# Altium schematic symbol library IC_chips.SchLib: 104 symbols (part 1 of 2)
Pins are listed as number, name and electrical type; pins without a type are passive.

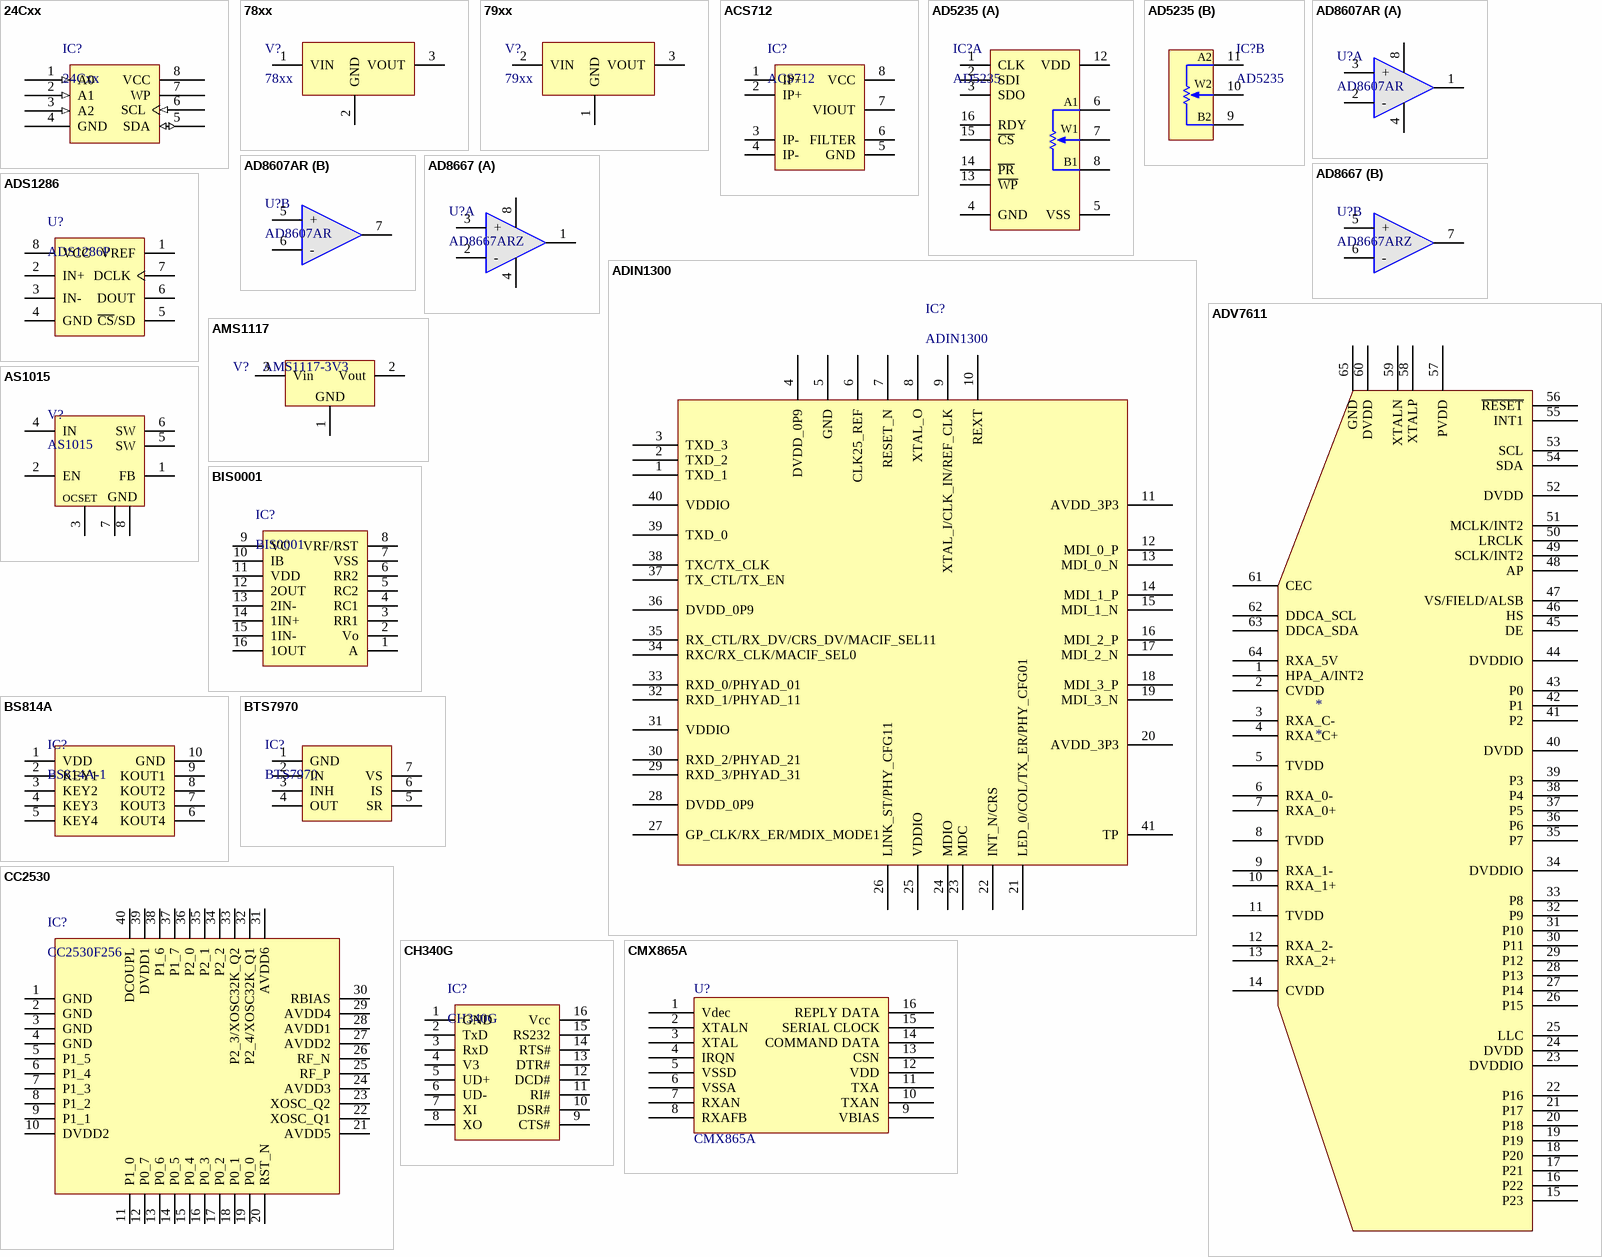
[diagram p0: symbols 24Cxx to CMX865A]

## 24Cxx
designator IC?
外置EEPROM; 版权归属: 源创客; BOM名称: 外置EEPROM; 学习资源: https://lmdzstyle.taobao.com/
footprint SOP8_L (5*6*1.8mm（长宽高）)
footprint SOP8_N (5*6*1.8mm（长宽高）)
footprint SOP8_M (5*6*1.8mm（长宽高）)
pins: 1 A0 (in), 2 A1 (in), 3 A2 (in), 4 GND, 5 SDA (io), 6 SCL (in), 7 WP, 8 VCC (power)

## 78xx
designator V?
线性稳压芯片; 版权归属: 源创客; BOM名称: 线性稳压芯片; 学习资源: https://lmdzstyle.taobao.com/
footprint TO252 (252晶体管)
footprint TO220A (220，3脚晶体管)
footprint TO220B (220，3脚晶体管)
pins: 1 VIN, 2 GND, 3 VOUT

## 79xx
designator V?
线性稳压芯片; 版权归属: 源创客; BOM名称: 线性稳压芯片; 学习资源: https://lmdzstyle.taobao.com/
footprint TO252 (252晶体管)
footprint TO220A (220，3脚晶体管)
footprint TO220B (220，3脚晶体管)
pins: 1 GND, 2 VIN, 3 VOUT

## ACS712
designator IC?
电流检测芯片; 版权归属: 源创客; BOM名称: 电流检测芯片; 学习资源: https://lmdzstyle.taobao.com/
footprint SOP8_N (5*6*1.8mm（长宽高）)
footprint SOP8_L (5*6*1.8mm（长宽高）)
footprint SOP8_M (5*6*1.8mm（长宽高）)
pins: 1 IP+, 2 IP+, 3 IP-, 4 IP-, 5 GND, 6 FILTER, 7 VIOUT, 8 VCC

## AD5235
designator IC?
数字电位器; 版权归属: 源创客; BOM名称: 数字电位器; 学习资源: https://lmdzstyle.taobao.com/
footprint TSSOP16_N (5*6.4*1mm（长宽高）)
footprint TSSOP16_L (5*6.4*1mm（长宽高）)
footprint TSSOP16_M (5*6.4*1mm（长宽高）)
part A pins: 1 CLK, 2 SDI, 3 SDO, 4 GND, 5 VSS, 6 A1, 7 W1, 8 B1, 12 VDD, 13 ~{WP}, 14 ~{PR}, 15 ~{CS}, 16 RDY
part B pins: 9 B2, 10 W2, 11 A2

## AD8607AR
designator U?
双运放; 版权归属: 源创客; BOM名称: 双运放; 学习资源: https://lmdzstyle.taobao.com/
footprint SOP8_N (5*6*1.8mm（长宽高）)
footprint SOP8_L (5*6*1.8mm（长宽高）)
footprint SOP8_M (5*6*1.8mm（长宽高）)
part A pins: 1 OUT1, 2 -, 3 +, 4 V- (power), 8 V+ (power)
part B pins: 5 +, 6 -, 7 OUT2

## AD8667
designator U?, comment AD8667ARZ
双运放; 版权归属: 源创客; BOM名称: 双运放; 学习资源: https://lmdzstyle.taobao.com/
footprint SOP8_N (5*6*1.8mm（长宽高）)
footprint SOP8_L (5*6*1.8mm（长宽高）)
footprint SOP8_M (5*6*1.8mm（长宽高）)
part A pins: 1 OUT1, 2 -, 3 +, 4 V- (power), 8 V+ (power)
part B pins: 5 +, 6 -, 7 OUT2

## ADIN1300
designator IC?
10/100/1000M 工业级PHY
footprint LFCSP40 6x6 (40脚，体宽：6x6mm，脚距：0.5mm)
pins: 1 TXD_1, 2 TXD_2, 3 TXD_3, 4 DVDD_0P9, 5 GND, 6 CLK25_REF, 7 RESET_N, 8 XTAL_O, 9 XTAL_I/CLK_IN/REF_CLK, 10 REXT, 11 AVDD_3P3, 12 MDI_0_P, 13 MDI_0_N, 14 MDI_1_P, 15 MDI_1_N, 16 MDI_2_P, 17 MDI_2_N, 18 MDI_3_P, 19 MDI_3_N, 20 AVDD_3P3, 21 LED_0/COL/TX_ER/PHY_CFG01, 22 INT_N/CRS, 23 MDC, 24 MDIO, 25 VDDIO, 26 LINK_ST/PHY_CFG11, 27 GP_CLK/RX_ER/MDIX_MODE1, 28 DVDD_0P9, 29 RXD_3/PHYAD_31, 30 RXD_2/PHYAD_21, 31 VDDIO, 32 RXD_1/PHYAD_11, 33 RXD_0/PHYAD_01, 34 RXC/RX_CLK/MACIF_SEL0, 35 RX_CTL/RX_DV/CRS_DV/MACIF_SEL11, 36 DVDD_0P9, 37 TX_CTL/TX_EN, 38 TXC/TX_CLK, 39 TXD_0, 40 VDDIO, 41 TP

## ADS1286
designator U?, comment ADS1286P
12位数模转换芯片; 版权归属: 黎明电子style; BOM名称: 12位数模转换芯片; 学习资源: https://lmdzstyle.taobao.com/
footprint SOP8_L (5*6*1.8mm（长宽高）)
footprint SOP8_M (5*6*1.8mm（长宽高）)
footprint SOP8_N (5*6*1.8mm（长宽高）)
footprint DIP8-300 (9.4*7.6*3.8(长宽高）)
footprint DIP8-300_MH (带底座 9.4*7.6*3.8(长宽高）)
pins: 1 VREF, 2 IN+, 3 IN-, 4 GND, 5 ~{CS}/SD, 6 DOUT, 7 DCLK, 8 VCC

## ADV7611
designator *
footprint HLQFP64 10x10_N (64脚，体宽10x10mm，脚距0.5mm)
pins: 1 HPA_A/INT2, 2 CVDD, 3 RXA_C-, 4 RXA_C+, 5 TVDD, 6 RXA_0-, 7 RXA_0+, 8 TVDD, 9 RXA_1-, 10 RXA_1+, 11 TVDD, 12 RXA_2-, 13 RXA_2+, 14 CVDD, 15 P23, 16 P22, 17 P21, 18 P20, 19 P19, 20 P18, 21 P17, 22 P16, 23 DVDDIO, 24 DVDD, 25 LLC, 26 P15, 27 P14, 28 P13, 29 P12, 30 P11, 31 P10, 32 P9, 33 P8, 34 DVDDIO, 35 P7, 36 P6, 37 P5, 38 P4, 39 P3, 40 DVDD, 41 P2, 42 P1, 43 P0, 44 DVDDIO, 45 DE, 46 HS, 47 VS/FIELD/ALSB, 48 AP, 49 SCLK/INT2, 50 LRCLK, 51 MCLK/INT2, 52 DVDD, 53 SCL, 54 SDA, 55 INT1, 56 ~{RESET}, 57 PVDD, 58 XTALP, 59 XTALN, 60 DVDD, 61 CEC, 62 DDCA_SCL, 63 DDCA_SDA, 64 RXA_5V, 65 GND

## AMS1117
designator V?, comment AMS1117-3V3
三端稳压芯片; BOM名称: 稳压芯片; 版权归属: 黎明电子style; 学习资源: https://lmdzstyle.taobao.com/
footprint SOT223_L (6.4x7x1.6mm(长宽高))
footprint SOT223_M (6.4x7x1.6mm(长宽高))
footprint SOT223_N (6.4x7x1.6mm(长宽高))
footprint SOT89_L (4.6x4.3x1.6mm(长宽高))
footprint SOT89_N (4.6x4.3x1.6mm(长宽高))
footprint SOT89_M (4.6x4.3x1.6mm(长宽高))
pins: 1 GND, 2 Vout, 3 Vin

## AS1015
designator V?
可调升压芯片; 版权归属: 黎明电子style; BOM名称: 可调升压芯片; 学习资源: https://lmdzstyle.taobao.com/
footprint SOP8_N (5*6*1.8mm（长宽高）)
footprint SOP8_L (5*6*1.8mm（长宽高）)
footprint SOP8_M (5*6*1.8mm（长宽高）)
pins: 1 FB (power), 2 EN (power), 3 OCSET (power), 4 IN (power), 5 SW (power), 6 SW (power), 7 GND (power), 8 GND (power)

## BIS0001
designator IC?
人体红外专用芯片; 版权归属: 黎明电子style; BOM名称: BIS0001; 学习资源: https://lmdzstyle.taobao.com/
footprint SOP16_N (10.3*6.2*1.8mm（长宽高）)
footprint SOP16_L (10.3*6.2*1.8mm（长宽高）)
footprint SOP16_M (10.3*6.2*1.8mm（长宽高）)
pins: 1 A, 2 Vo, 3 RR1, 4 RC1, 5 RC2, 6 RR2, 7 VSS, 8 VRF/RST, 9 VC, 10 IB, 11 VDD, 12 2OUT, 13 2IN-, 14 1IN+, 15 1IN-, 16 1OUT

## BS814A
designator IC?, comment BS814A-1
4键电容触摸按键芯片; 版权归属: 黎明电子style; BOM名称: 4键电容触摸按键芯片; 学习资源: https://lmdzstyle.taobao.com/
footprint MSOP10_L (塑封体长3mm，宽3mm，脚距0.5)
footprint MSOP10_N (塑封体长3mm，宽3mm，脚距0.5)
footprint MSOP10_M (塑封体长3mm，宽3mm，脚距0.5)
pins: 1 VDD, 2 KEY1, 3 KEY2, 4 KEY3, 5 KEY4, 6 KOUT4, 7 KOUT3, 8 KOUT2, 9 KOUT1, 10 GND

## BTS7970
designator IC?
电机驱动芯片; 版权归属: 黎明电子style; BOM名称: 电机驱动芯片; 学习资源: https://lmdzstyle.taobao.com/
footprint TO263-7A (263，7脚晶体管)
footprint TO263-7B (263，7脚晶体管)
pins: 1 GND (power), 2 IN (power), 3 INH (power), 4 OUT (power), 5 SR (power), 6 IS (power), 7 VS (power)

## CC2530
designator IC?, comment CC2530F256
ZigBee2.4G无线组网芯片; 版权归属: 黎明电子style; BOM名称: ZigBee2.4G无线组网芯片; 学习资源: https://lmdzstyle.taobao.com/
footprint QFN40 6X6_L (40脚，体宽：6x6mm，脚距：0.5mm)
footprint QFN40 6X6_M (40脚，体宽：6x6mm，脚距：0.5mm)
footprint QFN40 6X6_N (40脚，体宽：6x6mm，脚距：0.5mm)
pins: 1 GND, 2 GND, 3 GND, 4 GND, 5 P1_5, 6 P1_4, 7 P1_3, 8 P1_2, 9 P1_1, 10 DVDD2, 11 P1_0, 12 P0_7, 13 P0_6, 14 P0_5, 15 P0_4, 16 P0_3, 17 P0_2, 18 P0_1, 19 P0_0, 20 RST_N, 21 AVDD5, 22 XOSC_Q1, 23 XOSC_Q2, 24 AVDD3, 25 RF_P, 26 RF_N, 27 AVDD2, 28 AVDD1, 29 AVDD4, 30 RBIAS, 31 AVDD6, 32 P2_4/XOSC32K_Q1, 33 P2_3/XOSC32K_Q2, 34 P2_2, 35 P2_1, 36 P2_0, 37 P1_7, 38 P1_6, 39 DVDD1, 40 DCOUPL

## CH340G
designator IC?
串口转USB; 版权归属: 黎明电子style; BOM名称: 串口转USB; 学习资源: https://lmdzstyle.taobao.com/
footprint SOP16_L (10.3*6.2*1.8mm（长宽高）)
footprint SOP16_N (10.3*6.2*1.8mm（长宽高）)
footprint SOP16_M (10.3*6.2*1.8mm（长宽高）)
footprint DIP16-300 (19.3*7.6*3.8(长宽高）)
pins: 1 GND, 2 TxD, 3 RxD, 4 V3, 5 UD+, 6 UD-, 7 XI, 8 XO, 9 CTS#, 10 DSR#, 11 RI#, 12 DCD#, 13 DTR#, 14 RTS#, 15 RS232, 16 Vcc

## CMX865A
designator U?
有线电话modem
footprint TSSOP16_N (5*6.4*1mm（长宽高）)
pins: 1 Vdec, 2 XTALN, 3 XTAL, 4 IRQN, 5 VSSD, 6 VSSA, 7 RXAN, 8 RXAFB, 9 VBIAS, 10 TXAN, 11 TXA, 12 VDD, 13 CSN, 14 COMMAND DATA, 15 SERIAL CLOCK, 16 REPLY DATA

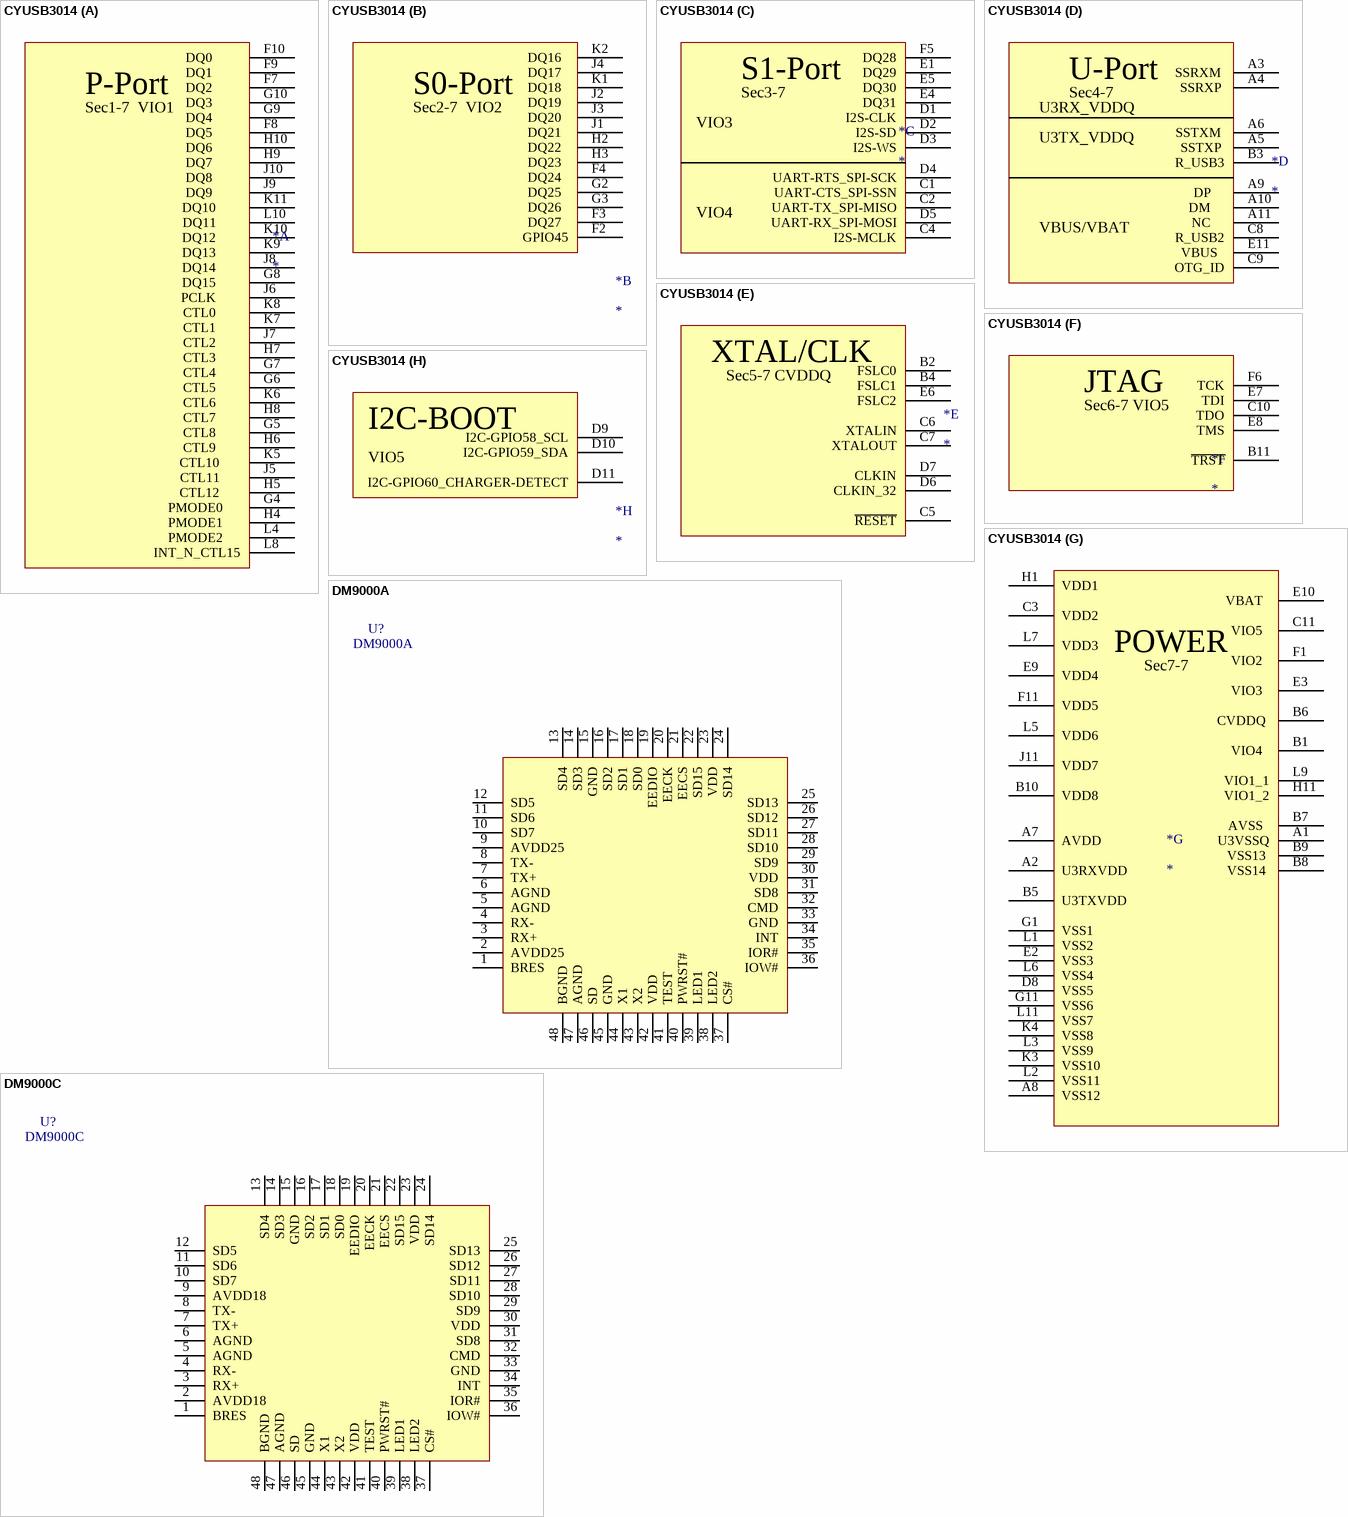
[diagram p1: symbols CYUSB3014 to DM9000C]

## CYUSB3014
designator *
USB3.0芯片
footprint BGA121C80P11X11_1000X1000X120 (BGA, 121-Leads, Body 10.00x10.00mmx1.20mm, Pitch 0.80mm)
part A pins: F7 DQ2        , F8 DQ5        , F9 DQ1        , F10 DQ0        , G4 PMODE0     , G5 CTL8       , G6 CTL5       , G7 CTL4       , G8 DQ15       , G9 DQ4        , G10 DQ3        , H4 PMODE1     , H5 CTL12      , H6 CTL9       , H7 CTL3       , H8 CTL7       , H9 DQ7        , H10 DQ6        , J5 CTL11      , J6 PCLK       , J7 CTL2       , J8 DQ14       , J9 DQ9        , J10 DQ8        , K5 CTL10      , K6 CTL6       , K7 CTL1       , K8 CTL0       , K9 DQ13       , K10 DQ12       , K11 DQ10       , L4 PMODE2     , L8 INT_N_CTL15, L10 DQ11       
part B pins: F2 GPIO45, F3 DQ27  , F4 DQ24  , G2 DQ25  , G3 DQ26  , H2 DQ22  , H3 DQ23  , J1 DQ21  , J2 DQ19  , J3 DQ20  , J4 DQ17  , K1 DQ18  , K2 DQ16  
part C pins: C1 UART-CTS_SPI-SSN, C2 UART-TX_SPI-MISO, C4 I2S-MCLK, D1 I2S-CLK, D2 I2S-SD, D3 I2S-WS, D4 UART-RTS_SPI-SCK, D5 UART-RX_SPI-MOSI, E1 DQ29, E4 DQ31, E5 DQ30, F5 DQ28
part D pins: A3  SSRXM , A4 SSRXP , A5 SSTXP , A6  SSTXM , A9 DP    , A10 DM    , A11 NC    , B3 R_USB3, C8 R_USB2, C9 OTG_ID, E11 VBUS  
part E pins: B2 FSLC0, B4 FSLC1, C5 ~{RESET}, C6 XTALIN, C7 XTALOUT, D6 CLKIN_32, D7 CLKIN, E6 FSLC2
part F pins: B11 ~{TRST}, C10 TDO, E7 TDI, E8 TMS, F6 TCK
part G pins: A1 U3VSSQ, A2 U3RXVDD, A7 AVDD, A8 VSS12, B1 VIO4  , B5 U3TXVDD, B6 CVDDQ , B7 AVSS  , B8 VSS14 , B9 VSS13 , B10 VDD8, C3 VDD2, C11 VIO5  , D8 VSS5, E2 VSS3, E3 VIO3  , E9 VDD4, E10 VBAT  , F1 VIO2  , F11 VDD5, G1 VSS1, G11 VSS6, H1 VDD1, H11 VIO1_2, J11 VDD7, K3 VSS10, K4 VSS8, L1 VSS2, L2 VSS11, L3 VSS9, L5 VDD6, L6 VSS4, L7 VDD3, L9 VIO1_1, L11 VSS7
part H pins: D9 I2C-GPIO58_SCL, D10 I2C-GPIO59_SDA, D11 I2C-GPIO60_CHARGER-DETECT
part A text: P-Port; Sec1-7  VIO1
part B text: S0-Port; Sec2-7  VIO2
part C text: S1-Port; Sec3-7
part D text: U-Port; Sec4-7; U3RX_VDDQ; U3TX_VDDQ; VBUS/VBAT
part E text: XTAL/CLK; Sec5-7 CVDDQ
part F text: JTAG; Sec6-7 VIO5
part G text: POWER; Sec7-7
part H text: I2C-BOOT

## DM9000A
designator U?
网络芯片; 版权归属: 黎明电子style; BOM名称: 网络芯片; 学习资源: https://lmdzstyle.taobao.com/
footprint LQFP48 7X7_N (48脚，体宽7x7mm，脚距0.5mm)
footprint LQFP48 7X7_L (48脚，体宽7x7mm，脚距0.5mm)
footprint LQFP48 7X7_M (48脚，体宽7x7mm，脚距0.5mm)
pins: 1 BRES, 2 AVDD25, 3 RX+, 4 RX-, 5 AGND, 6 AGND, 7 TX+, 8 TX-, 9 AVDD25, 10 SD7, 11 SD6, 12 SD5, 13 SD4, 14 SD3, 15 GND, 16 SD2, 17 SD1, 18 SD0, 19 EEDIO, 20 EECK, 21 EECS, 22 SD15, 23 VDD, 24 SD14, 25 SD13, 26 SD12, 27 SD11, 28 SD10, 29 SD9, 30 VDD, 31 SD8, 32 CMD, 33 GND, 34 INT, 35 IOR#, 36 IOW#, 37 CS#, 38 LED2, 39 LED1, 40 PWRST#, 41 TEST, 42 VDD, 43 X2, 44 X1, 45 GND, 46 SD, 47 AGND, 48 BGND

## DM9000C
designator U?
网络芯片; 版权归属: 黎明电子style; BOM名称: 网络芯片; 学习资源: https://lmdzstyle.taobao.com/
footprint LQFP48 7X7_N (48脚，体宽7x7mm，脚距0.5mm)
footprint LQFP48 7X7_L (48脚，体宽7x7mm，脚距0.5mm)
footprint LQFP48 7X7_M (48脚，体宽7x7mm，脚距0.5mm)
pins: 1 BRES, 2 AVDD18, 3 RX+, 4 RX-, 5 AGND, 6 AGND, 7 TX+, 8 TX-, 9 AVDD18, 10 SD7, 11 SD6, 12 SD5, 13 SD4, 14 SD3, 15 GND, 16 SD2, 17 SD1, 18 SD0, 19 EEDIO, 20 EECK, 21 EECS, 22 SD15, 23 VDD, 24 SD14, 25 SD13, 26 SD12, 27 SD11, 28 SD10, 29 SD9, 30 VDD, 31 SD8, 32 CMD, 33 GND, 34 INT, 35 IOR#, 36 IOW#, 37 CS#, 38 LED2, 39 LED1, 40 PWRST#, 41 TEST, 42 VDD, 43 X2, 44 X1, 45 GND, 46 SD, 47 AGND, 48 BGND

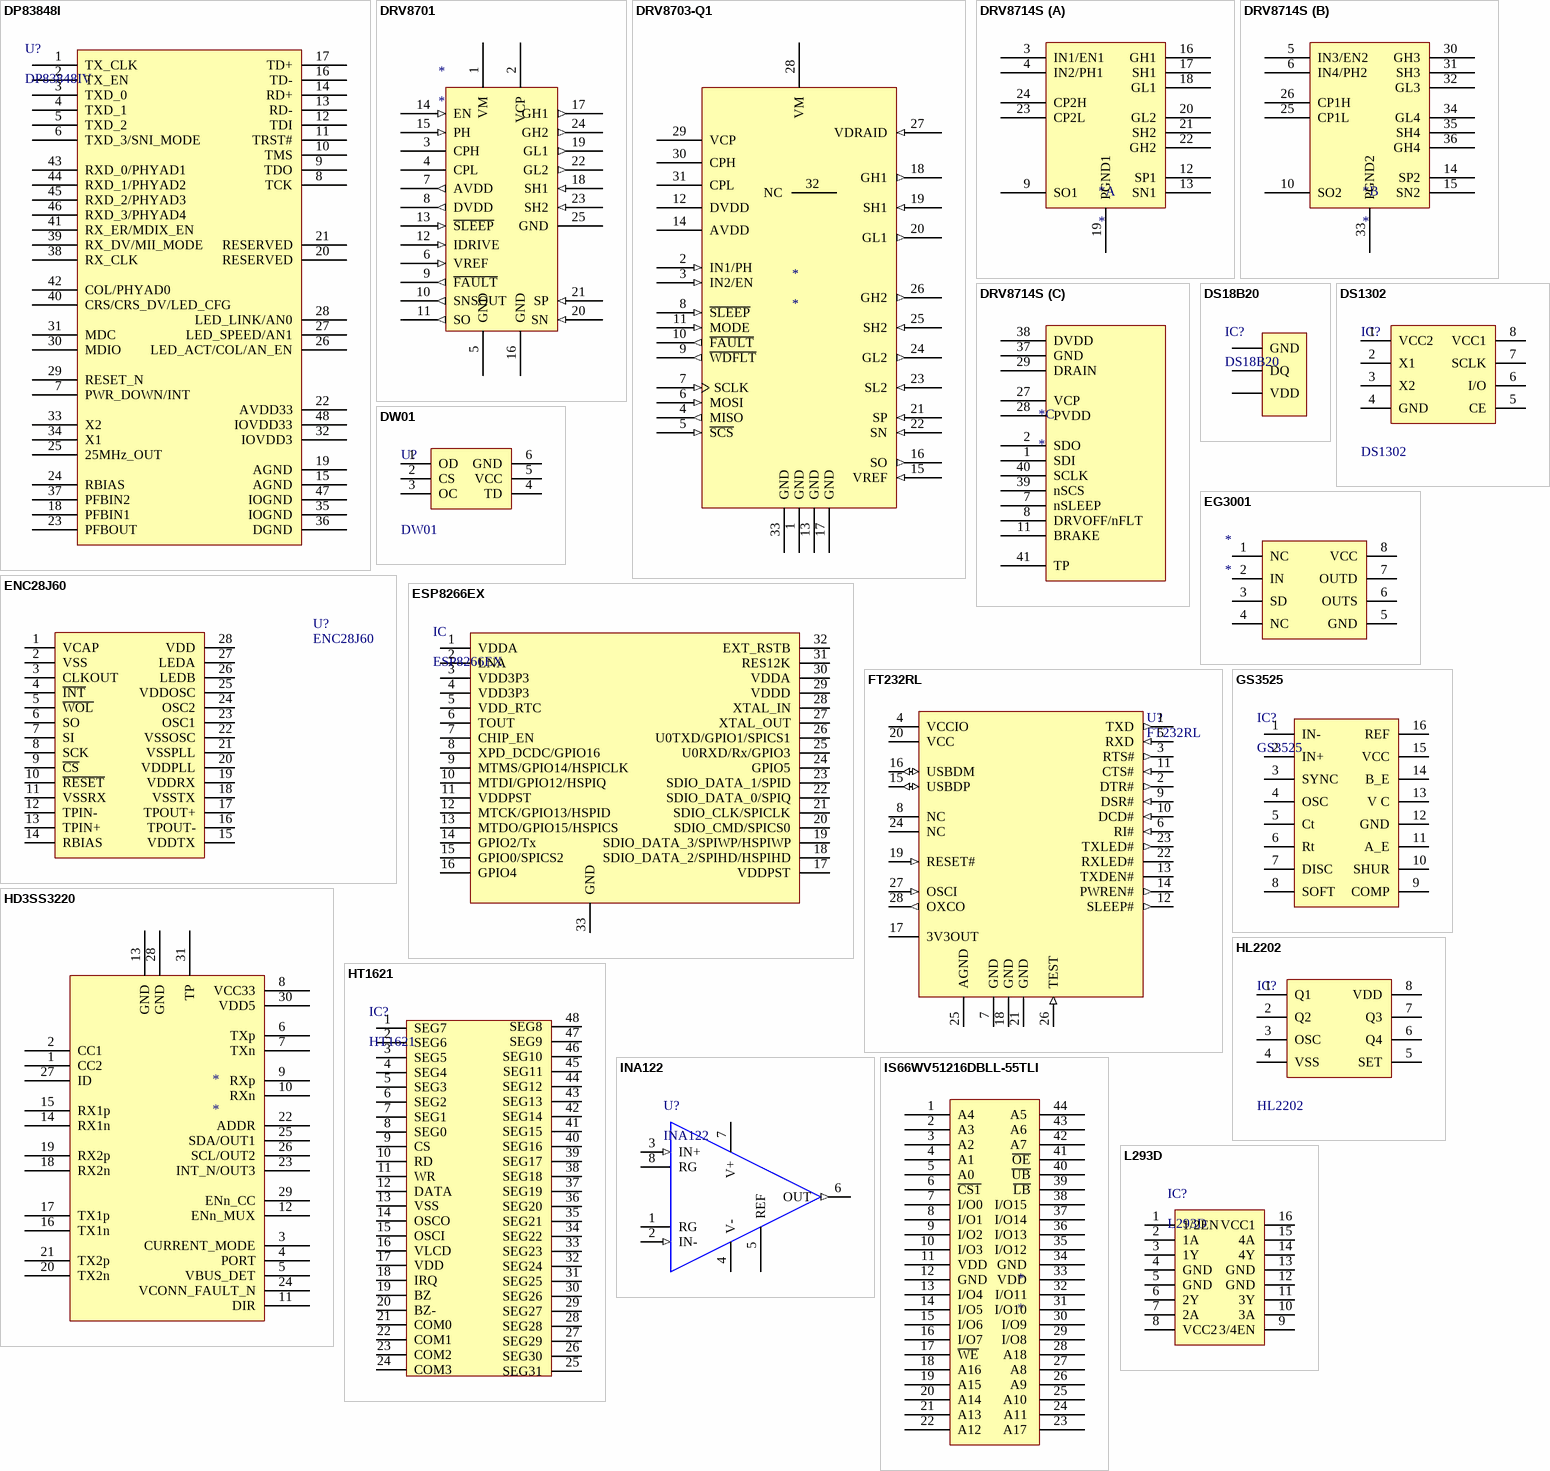
[diagram p2: symbols DP83848I to L293D]

## DP83848I
designator U?, comment DP83848IV
网络芯片; 版权归属: 黎明电子style; BOM名称: 网络芯片; 学习资源: https://lmdzstyle.taobao.com/
footprint LQFP48 7X7_N (48脚，体宽7x7mm，脚距0.5mm)
footprint LQFP48 7X7_L (48脚，体宽7x7mm，脚距0.5mm)
footprint LQFP48 7X7_M (48脚，体宽7x7mm，脚距0.5mm)
pins: 1 TX_CLK, 2 TX_EN, 3 TXD_0, 4 TXD_1, 5 TXD_2, 6 TXD_3/SNI_MODE, 7 PWR_DOWN/INT, 8 TCK, 9 TDO, 10 TMS, 11 TRST#, 12 TDI, 13 RD-, 14 RD+, 15 AGND, 16 TD-, 17 TD+, 18 PFBIN1, 19 AGND, 20 RESERVED, 21 RESERVED, 22 AVDD33, 23 PFBOUT, 24 RBIAS, 25 25MHz_OUT, 26 LED_ACT/COL/AN_EN, 27 LED_SPEED/AN1, 28 LED_LINK/AN0, 29 RESET_N, 30 MDIO, 31 MDC, 32 IOVDD3, 33 X2, 34 X1, 35 IOGND, 36 DGND, 37 PFBIN2, 38 RX_CLK, 39 RX_DV/MII_MODE, 40 CRS/CRS_DV/LED_CFG, 41 RX_ER/MDIX_EN, 42 COL/PHYAD0, 43 RXD_0/PHYAD1, 44 RXD_1/PHYAD2, 45 RXD_2/PHYAD3, 46 RXD_3/PHYAD4, 47 IOGND, 48 IOVDD33

## DRV8701
designator *
有刷直流电机全桥栅极驱动器
footprint QFN24
pins: 1 VM (power), 2 VCP (power), 3 CPH (power), 4 CPL (power), 5 GND (power), 6 VREF (in), 7 AVDD (out), 8 DVDD (out), 9 ~{FAULT} (out), 10 SNSOUT (out), 11 SO (out), 12 IDRIVE (in), 13 ~{SLEEP} (in), 14 EN (in), 15 PH (in), 16 GND (power), 17 GH1 (out), 18 SH1 (in), 19 GL1 (out), 20 SN (in), 21 SP (in), 22 GL2 (out), 23 SH2 (in), 24 GH2 (out), 25 GND (power)

## DRV8703-Q1
designator *
H桥栅极驱动器
footprint QFN32 5x5_M (32脚，长：5mm，宽：5mm，高：9.5mm)
pins: 1 GND (power), 2 IN1/PH (in), 3 IN2/EN (in), 4 MISO (out), 5 ~{SCS} (in), 6 MOSI (in), 7 SCLK (in), 8 ~{SLEEP} (in), 9 ~{WDFLT} (out), 10 ~{FAULT} (out), 11 MODE (in), 12 DVDD, 13 GND (power), 14 AVDD, 15 VREF (in), 16 SO (out), 17 GND (power), 18 GH1 (out), 19 SH1 (in), 20 GL1 (out), 21 SP (in), 22 SN (in), 23 SL2 (in), 24 GL2 (out), 25 SH2 (in), 26 GH2 (out), 27 VDRAID (in), 28 VM, 29 VCP, 30 CPH, 31 CPL, 32 NC, 33 GND (power)

## DRV8714S
designator *
footprint QFN40 6X6_N (40脚，体宽：6x6mm，脚距：0.5mm)
part A pins: 3 IN1/EN1, 4 IN2/PH1, 9 SO1, 12 SP1, 13 SN1, 16 GH1, 17 SH1, 18 GL1, 19 PGND1, 20 GL2, 21 SH2, 22 GH2, 23 CP2L, 24 CP2H
part B pins: 5 IN3/EN2, 6 IN4/PH2, 10 SO2, 14 SP2, 15 SN2, 25 CP1L, 26 CP1H, 30 GH3, 31 SH3, 32 GL3, 33 PGND2, 34 GL4, 35 SH4, 36 GH4
part C pins: 1 SDI , 2 SDO , 7 nSLEEP, 8 DRVOFF/nFLT , 11 BRAKE, 27 VCP, 28 PVDD, 29 DRAIN, 37 GND, 38 DVDD, 39 nSCS , 40 SCLK, 41 TP

## DS18B20
designator IC?
数字温度计; 版权归属: 黎明电子style; BOM名称: 数字温度计; 学习资源: https://lmdzstyle.taobao.com/
footprint TO92A (92晶体管)
footprint TO92B (92晶体管)
pins: 1 GND, 2 DQ, 3 VDD

## DS1302
designator IC?
实时时钟芯片; 版权归属: 黎明电子style; BOM名称: 实时时钟芯片; 学习资源: https://lmdzstyle.taobao.com/
footprint SOP8_N (5*6*1.8mm（长宽高）)
footprint SOP8_L (5*6*1.8mm（长宽高）)
footprint SOP8_M (5*6*1.8mm（长宽高）)
footprint DIP8-300 (9.4*7.6*3.8(长宽高）)
pins: 1 VCC2, 2 X1, 3 X2, 4 GND, 5 CE, 6 I/O, 7 SCLK, 8 VCC1

## DW01
designator U?
锂电池过流保护IC; BOM名称: 过流保护IC; 版权归属: 黎明电子style; 学习资源: https://lmdzstyle.taobao.com/
footprint SOT23-6L (3x1.6x1.1mm(长宽高))
footprint SOT23-6N (3x1.6x1.1mm(长宽高))
footprint SOT23-6M (3x1.6x1.1mm(长宽高))
pins: 1 OD, 2 CS, 3 OC, 4 TD, 5 VCC, 6 GND

## EG3001
designator *
MOS驱动
footprint SOP8_L (5*6*1.8mm（长宽高）)
pins: 1 NC, 2 IN, 3 SD, 4 NC, 5 GND, 6 OUTS, 7 OUTD, 8 VCC

## ENC28J60
designator U?
SPI以太网控制芯片; 版权归属: 黎明电子style; BOM名称: SPI以太网控制芯片; 学习资源: https://lmdzstyle.taobao.com/
footprint SSOP28_N (10.2*7.8*1.9mm(长宽高）)
footprint SSOP28_L (10.2*7.8*1.9mm(长宽高）)
footprint SSOP28_M (10.2*7.8*1.9mm(长宽高）)
pins: 1 VCAP, 2 VSS, 3 CLKOUT, 4 ~{INT}, 5 ~{WOL}, 6 SO, 7 SI, 8 SCK, 9 ~{CS}, 10 ~{RESET}, 11 VSSRX, 12 TPIN-, 13 TPIN+, 14 RBIAS, 15 VDDTX, 16 TPOUT-, 17 TPOUT+, 18 VSSTX, 19 VDDRX, 20 VDDPLL, 21 VSSPLL, 22 VSSOSC, 23 OSC1, 24 OSC2, 25 VDDOSC, 26 LEDB, 27 LEDA, 28 VDD

## ESP8266EX
designator IC
WIFI-芯片; 版权归属: 黎明电子style; BOM名称: WIFI-芯片; 学习资源: https://lmdzstyle.taobao.com/
footprint QFN32 5x5_L (32脚，长：5mm，宽：5mm，高：9.5mm)
footprint QFN32 5x5_M (32脚，长：5mm，宽：5mm，高：9.5mm)
footprint QFN32 5x5_N (32脚，长：5mm，宽：5mm，高：9.5mm)
pins: 1 VDDA, 2 LNA, 3 VDD3P3, 4 VDD3P3, 5 VDD_RTC, 6 TOUT, 7 CHIP_EN, 8 XPD_DCDC/GPIO16, 9 MTMS/GPIO14/HSPICLK, 10 MTDI/GPIO12/HSPIQ, 11 VDDPST, 12 MTCK/GPIO13/HSPID, 13 MTDO/GPIO15/HSPICS, 14 GPIO2/Tx, 15 GPIO0/SPICS2, 16 GPIO4, 17 VDDPST, 18 SDIO_DATA_2/SPIHD/HSPIHD, 19 SDIO_DATA_3/SPIWP/HSPIWP, 20 SDIO_CMD/SPICS0, 21 SDIO_CLK/SPICLK, 22 SDIO_DATA_0/SPIQ, 23 SDIO_DATA_1/SPID, 24 GPIO5, 25 U0RXD/Rx/GPIO3, 26 U0TXD/GPIO1/SPICS1, 27 XTAL_OUT, 28 XTAL_IN, 29 VDDD, 30 VDDA, 31 RES12K, 32 EXT_RSTB, 33 GND

## FT232RL
designator U?
USB转串口; 版权归属: 黎明电子style; BOM名称: USB转串口; 学习资源: https://lmdzstyle.taobao.com/
footprint SSOP28_N (10.2*7.8*1.9mm(长宽高）)
footprint SSOP28_L (10.2*7.8*1.9mm(长宽高）)
footprint SSOP28_M (10.2*7.8*1.9mm(长宽高）)
pins: 1 TXD (out), 2 DTR# (out), 3 RTS# (out), 4 VCCIO (power), 5 RXD (in), 6 RI# (in), 7 GND (power), 8 NC, 9 DSR# (in), 10 DCD# (in), 11 CTS# (in), 12 SLEEP# (out), 13 TXDEN# (oc), 14 PWREN# (out), 15 USBDP (io), 16 USBDM (io), 17 3V3OUT (power), 18 GND (power), 19 RESET# (in), 20 VCC (power), 21 GND (power), 22 RXLED# (oc), 23 TXLED# (out), 24 NC, 25 AGND (power), 26 TEST (in), 27 OSCI (in), 28 OXCO (out)

## GS3525
designator IC?
开关电源管理IC; BOM名称: 电源管理IC; 版权归属: 黎明电子style; 学习资源: https://lmdzstyle.taobao.com/
footprint DIP16-300 (19.3*7.6*3.8(长宽高）)
footprint SOP16_L (10.3*6.2*1.8mm（长宽高）)
footprint SOP16_N (10.3*6.2*1.8mm（长宽高）)
footprint SOP16_M (10.3*6.2*1.8mm（长宽高）)
pins: 1 IN-, 2 IN+, 3 SYNC, 4 OSC, 5 Ct, 6 Rt, 7 DISC, 8 SOFT, 9 COMP, 10 SHUR, 11 A_E, 12 GND, 13 V C, 14 B_E, 15 VCC, 16 REF

## HD3SS3220
designator *
usb3.0 to typec mux
footprint WQFN-30 (QFN, 30-Leads, Body 2.50x4.50mm, Pitch 0.40mm, Thermal Pad 1.20x3.20mm, IPC Medium Density)
pins: 1 CC2, 2 CC1, 3 CURRENT_MODE, 4 PORT, 5 VBUS_DET, 6 TXp, 7 TXn, 8 VCC33, 9 RXp, 10 RXn, 11 DIR, 12 ENn_MUX, 13 GND, 14 RX1n, 15 RX1p, 16 TX1n, 17 TX1p, 18 RX2n, 19 RX2p, 20 TX2n, 21 TX2p, 22 ADDR, 23 INT_N/OUT3, 24 VCONN_FAULT_N, 25 SDA/OUT1, 26 SCL/OUT2, 27 ID, 28 GND, 29 ENn_CC, 30 VDD5, 31 TP

## HL2202
designator IC?
灯光控制芯片; 版权归属: 黎明电子style; BOM名称: 灯光控制芯片; 学习资源: https://lmdzstyle.taobao.com/
footprint SOP8_N (5*6*1.8mm（长宽高）)
footprint SOP8_L (5*6*1.8mm（长宽高）)
footprint SOP8_M (5*6*1.8mm（长宽高）)
footprint DIP8-300 (9.4*7.6*3.8(长宽高）)
pins: 1 Q1, 2 Q2, 3 OSC, 4 VSS, 5 SET, 6 Q4, 7 Q3, 8 VDD

## HT1621
designator IC?
LCD驱动芯片; 版权归属: 黎明电子style; BOM名称: LCD驱动芯片; 学习资源: https://lmdzstyle.taobao.com/
footprint SSOP48_N (16*10.3*2.4mm（长宽高）)
footprint SSOP48_L (16*10.3*2.4mm（长宽高）)
footprint SSOP48_M (16*10.3*2.4mm（长宽高）)
pins: 1 SEG7, 2 SEG6, 3 SEG5, 4 SEG4, 5 SEG3, 6 SEG2, 7 SEG1, 8 SEG0, 9 CS, 10 RD, 11 WR, 12 DATA, 13 VSS, 14 OSCO, 15 OSCI, 16 VLCD, 17 VDD, 18 IRQ, 19 BZ, 20 BZ-, 21 COM0, 22 COM1, 23 COM2, 24 COM3, 25 SEG31, 26 SEG30, 27 SEG29, 28 SEG28, 29 SEG27, 30 SEG26, 31 SEG25, 32 SEG24, 33 SEG23, 34 SEG22, 35 SEG21, 36 SEG20, 37 SEG19, 38 SEG18, 39 SEG17, 40 SEG16, 41 SEG15, 42 SEG14, 43 SEG13, 44 SEG12, 45 SEG11, 46 SEG10, 47 SEG9, 48 SEG8

## INA122
designator U?
微功耗仪表运放; 版权归属: 黎明电子style; BOM名称: 微功耗仪表运放; 学习资源: https://lmdzstyle.taobao.com/
footprint SOP8_L (5*6*1.8mm（长宽高）)
footprint SOP8_M (5*6*1.8mm（长宽高）)
footprint SOP8_N (5*6*1.8mm（长宽高）)
footprint DIP8-300 (9.4*7.6*3.8(长宽高）)
footprint DIP8-300_MH (带底座 9.4*7.6*3.8(长宽高）)
pins: 1 RG, 2 IN- (in), 3 IN+ (in), 4 V-, 5 REF, 6 OUT (out), 7 V+, 8 RG

## IS66WV51216DBLL-55TLI
designator *
footprint TSOP44
footprint BGA48 (IS62WV51216-BGA); pin to pad 1>B4 2>B3 3>A5 4>A4 5>A3 6>B5 7>B6 8>C5 9>C6 10>D5 11>E1 12>D1 13>E5 14>F5 15>F6 16>G6 17>G5 18>E4 19>F4 20>F3 21>G4 22>G3 23>D3 24>H5 25>H4 26>H3 27>H2 28>H1 29>B1 30>C1 31>C2 32>D2 33>D6 34>E3 35>E2 36>F2 37>F1 38>G1 39>A1 40>B2 41>A2 42>D4 43>C4 44>C3
pins: 1 A4 , 2 A3 , 3 A2 , 4 A1 , 5 A0 , 6 ~{CS1} , 7 I/O0 , 8 I/O1 , 9 I/O2 , 10 I/O3 , 11 VDD , 12 GND , 13 I/O4 , 14 I/O5 , 15 I/O6 , 16 I/O7 , 17 ~{WE}, 18 A16 , 19 A15 , 20 A14 , 21 A13 , 22 A12 , 23 A17 , 24 A11 , 25 A10 , 26 A9 , 27 A8 , 28 A18 , 29 I/O8 , 30 I/O9 , 31 I/O10 , 32 I/O11 , 33 VDD , 34 GND , 35 I/O12 , 36 I/O13 , 37 I/O14 , 38 I/O15 , 39 ~{LB}, 40 ~{UB}, 41 ~{OE}, 42 A7 , 43 A6 , 44 A5 

## L293D
designator IC?
电机驱动H桥; 版权归属: 黎明电子style; BOM名称: 电机驱动H桥; 学习资源: https://lmdzstyle.taobao.com/
footprint DIP16-300 (19.3*7.6*3.8(长宽高）)
footprint DIP16-300_MH (带底座 19.3*7.6*3.8(长宽高）)
pins: 1 1/2EN, 2 1A, 3 1Y, 4 GND, 5 GND, 6 2Y, 7 2A, 8 VCC2, 9 3/4EN, 10 3A, 11 3Y, 12 GND, 13 GND, 14 4Y, 15 4A, 16 VCC1

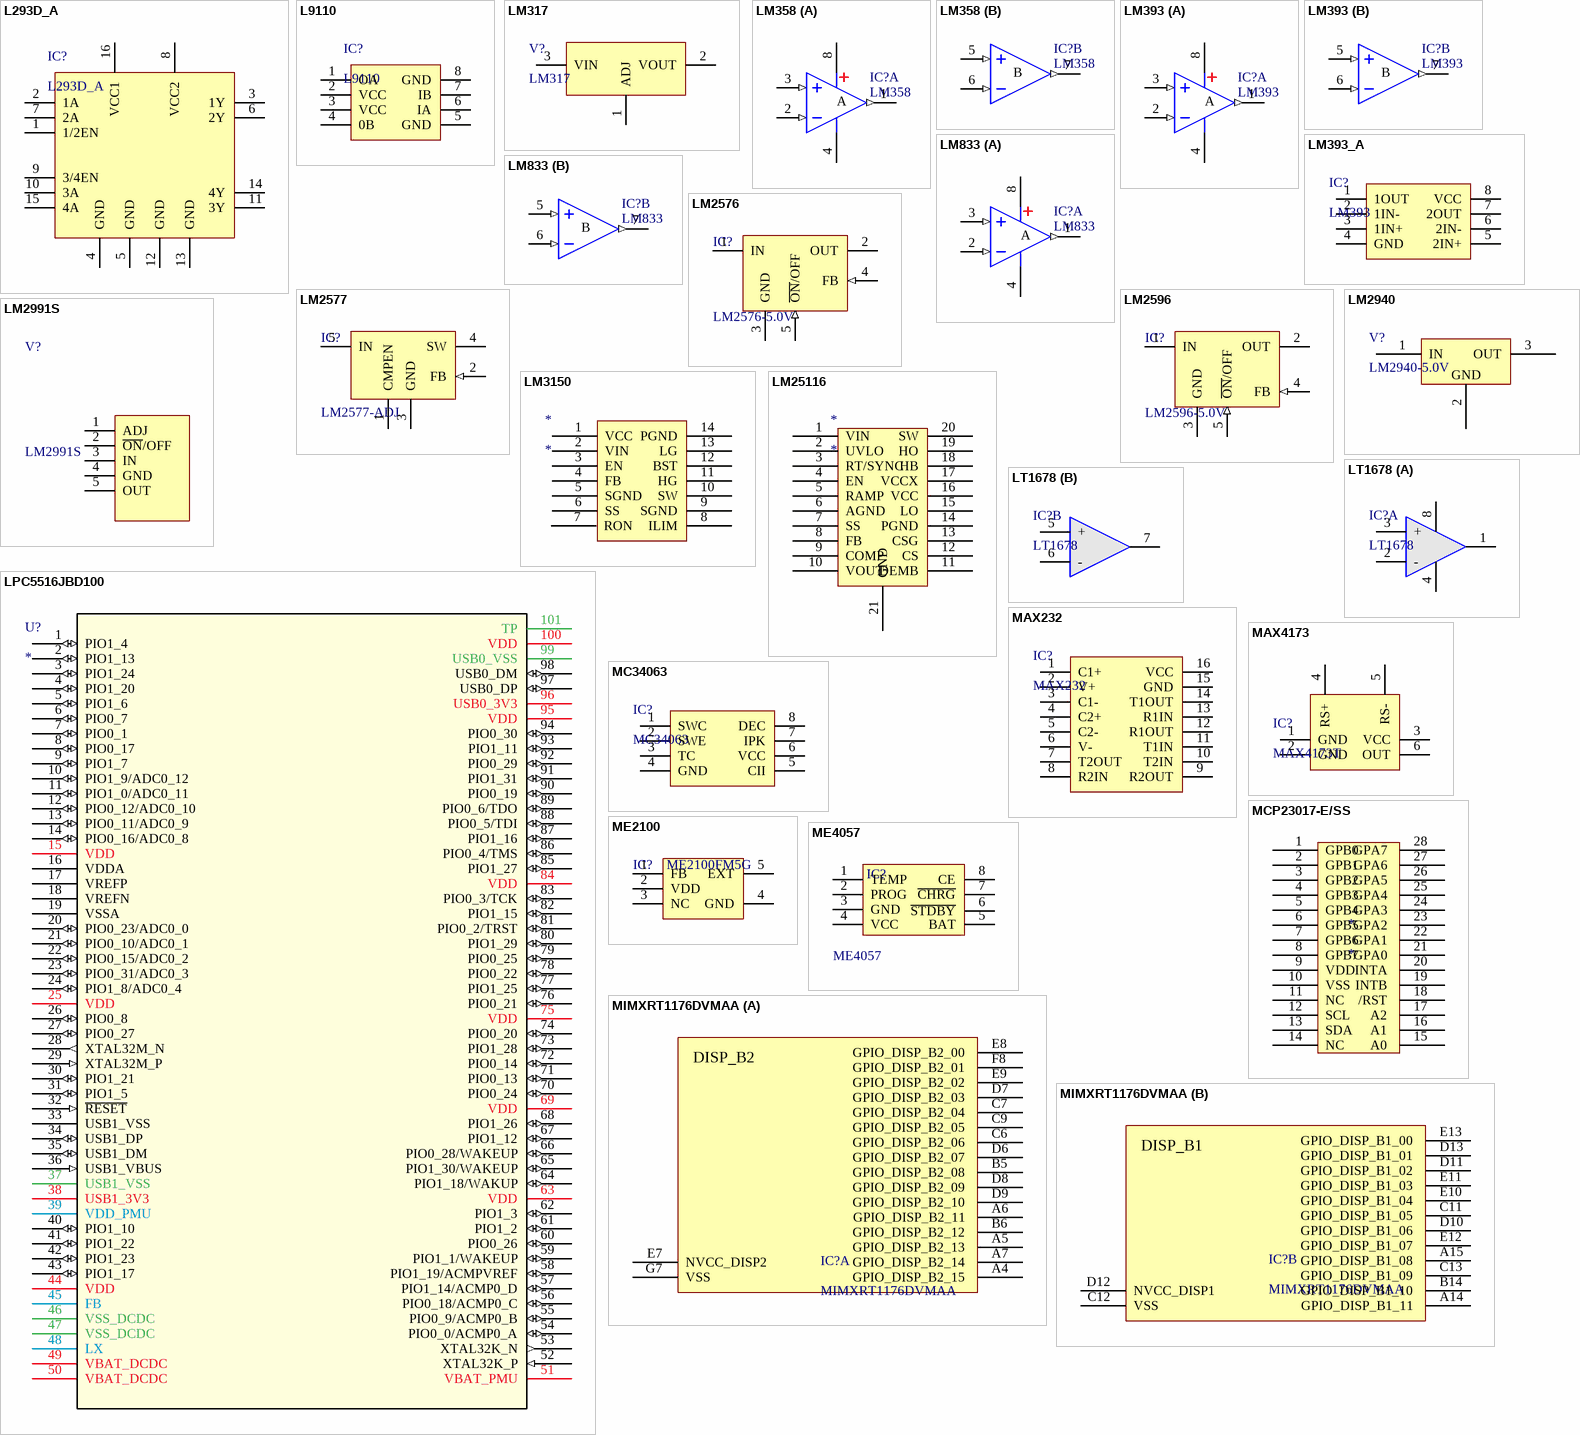
[diagram p3: symbols L293D_A to MIMXRT1176DVMAA]

## L293D_A
designator IC?
电机驱动H桥; 版权归属: 黎明电子style; BOM名称: 电机驱动H桥; 学习资源: https://lmdzstyle.taobao.com/
footprint DIP16-300 (19.3*7.6*3.8(长宽高）)
footprint DIP16-300_MH (带底座 19.3*7.6*3.8(长宽高）)
pins: 1 1/2EN, 2 1A, 3 1Y, 4 GND, 5 GND, 6 2Y, 7 2A, 8 VCC2, 9 3/4EN, 10 3A, 11 3Y, 12 GND, 13 GND, 14 4Y, 15 4A, 16 VCC1

## L9110
designator IC?
直流电机控制芯片; 版权归属: 黎明电子style; BOM名称: 直流电机控制芯片; 学习资源: https://lmdzstyle.taobao.com/
footprint DIP8-300 (9.4*7.6*3.8(长宽高）)
footprint SOP8_L (5*6*1.8mm（长宽高）)
footprint SOP8_N (5*6*1.8mm（长宽高）)
footprint SOP8_M (5*6*1.8mm（长宽高）)
pins: 1 OA, 2 VCC, 3 VCC, 4 0B, 5 GND, 6 IA, 7 IB, 8 GND

## LM317
designator V?
可调线性稳压芯片; 版权归属: 黎明电子style; BOM名称: 可调线性稳压芯片; 学习资源: https://lmdzstyle.taobao.com/
footprint TO252 (252晶体管)
footprint TO220A (220，3脚晶体管)
footprint TO220B (220，3脚晶体管)
footprint SOT223_L (6.4x7x1.6mm(长宽高))
pins: 1 ADJ, 2 VOUT, 3 VIN

## LM358
designator IC?
双路运放; 版权归属: 黎明电子style; BOM名称: 双路运放; 学习资源: https://lmdzstyle.taobao.com/
footprint SOP8_L (5*6*1.8mm（长宽高）)
footprint SOP8_N (5*6*1.8mm（长宽高）)
footprint SOP8_M (5*6*1.8mm（长宽高）)
footprint DIP8-300 (9.4*7.6*3.8(长宽高）)
part A pins: 1 OUT (out), 2 IN- (in), 3 IN+ (in), 4 V- (power), 8 V+ (power)
part B pins: 5 IN+ (in), 6 IN- (in), 7 OUT (out)
part A text: A
part B text: B

## LM393
designator IC?
双路电压比较; 版权归属: 黎明电子style; BOM名称: 双路电压比较; 学习资源: https://lmdzstyle.taobao.com/
footprint SOP8_L (5*6*1.8mm（长宽高）)
footprint SOP8_N (5*6*1.8mm（长宽高）)
footprint SOP8_M (5*6*1.8mm（长宽高）)
footprint DIP8-300 (9.4*7.6*3.8(长宽高）)
part A pins: 1 OUT (out), 2 IN- (in), 3 IN+ (in), 4 V- (power), 8 V+ (power)
part B pins: 5 IN+ (in), 6 IN- (in), 7 OUT (out)
part A text: A
part B text: B

## LM393_A
designator IC?, comment LM393
双路电压比较; 版权归属: 黎明电子style; BOM名称: 双路电压比较; 学习资源: https://lmdzstyle.taobao.com/
footprint DIP8-300 (9.4*7.6*3.8(长宽高）)
footprint SOP8_L (5*6*1.8mm（长宽高）)
footprint SOP8_N (5*6*1.8mm（长宽高）)
footprint SOP8_M (5*6*1.8mm（长宽高）)
pins: 1 1OUT, 2 1IN-, 3 1IN+, 4 GND, 5 2IN+, 6 2IN-, 7 2OUT, 8 VCC

## LM833
designator IC?
双路运放; 版权归属: 黎明电子style; BOM名称: 双路运放; 学习资源: https://lmdzstyle.taobao.com/
footprint SOP8_L (5*6*1.8mm（长宽高）)
footprint SOP8_N (5*6*1.8mm（长宽高）)
footprint SOP8_M (5*6*1.8mm（长宽高）)
footprint DIP8-300 (9.4*7.6*3.8(长宽高）)
part A pins: 1 OUT (out), 2 IN- (in), 3 IN+ (in), 4 V- (power), 8 V+ (power)
part B pins: 5 IN+ (in), 6 IN- (in), 7 OUT (out)
part A text: A
part B text: B

## LM2576
designator IC?, comment LM2576-5.0V
DC降压芯片; 版权归属: 黎明电子style; BOM名称: DC降压芯片; 学习资源: https://lmdzstyle.taobao.com/
footprint TO220-5A (220，5脚晶体管)
footprint TO220-5B (220，5脚晶体管)
footprint TO220-5C (220，5脚晶体管)
footprint TO263-5A (263，5脚晶体管)
footprint TO263-5B (263，5脚晶体管)
pins: 1 IN (power), 2 OUT (power), 3 GND (power), 4 FB (in), 5 ~{ON}/OFF (in)

## LM2577
designator IC?, comment LM2577-ADJ
DC升压芯片; 版权归属: 黎明电子style; BOM名称: DC升压芯片; 学习资源: https://lmdzstyle.taobao.com/
footprint TO220-5A (220，5脚晶体管)
footprint TO220-5B (220，5脚晶体管)
footprint TO220-5C (220，5脚晶体管)
footprint TO263-5A (263，5脚晶体管)
footprint TO263-5B (263，5脚晶体管)
pins: 1 CMPEN, 2 FB (in), 3 GND (power), 4 SW (power), 5 IN (power)

## LM2596
designator IC?, comment LM2596-5.0V
DC降压芯片; BOM名称: DC稳压芯片; 版权归属: 黎明电子style; 学习资源: https://lmdzstyle.taobao.com/
footprint TO220-5A (220，5脚晶体管)
footprint TO220-5B (220，5脚晶体管)
footprint TO220-5C (220，5脚晶体管)
footprint TO263-5A (263，5脚晶体管)
footprint TO263-5B (263，5脚晶体管)
pins: 1 IN (power), 2 OUT (power), 3 GND (power), 4 FB (in), 5 ~{ON}/OFF (in)

## LM2940
designator V?, comment LM2940-5.0V
5V稳压芯片; 版权归属: 黎明电子style; BOM名称: 5V稳压芯片; 学习资源: https://lmdzstyle.taobao.com/
footprint TO220A (220，3脚晶体管)
footprint TO220B (220，3脚晶体管)
pins: 1 IN (power), 2 GND (power), 3 OUT (power)

## LM2991S
designator V?
可调稳压芯片; 版权归属: 黎明电子style; BOM名称: 可调稳压芯片; 学习资源: https://lmdzstyle.taobao.com/
footprint TO220-5A (220，5脚晶体管)
footprint TO220-5B (220，5脚晶体管)
footprint TO220-5C (220，5脚晶体管)
footprint TO263-5A (263，5脚晶体管)
footprint TO263-5B (263，5脚晶体管)
pins: 1 ADJ, 2 ~{ON}/OFF, 3 IN, 4 GND, 5 OUT

## LM3150
designator *
SIMPLE SWITCHER®42V同步降压控制器
footprint TSSOP14_N (5*6.4*1mm（长宽高）)
pins: 1 VCC, 2 VIN, 3 EN, 4 FB, 5 SGND, 6 SS, 7 RON, 8 ILIM, 9 SGND, 10 SW, 11 HG, 12 BST, 13 LG, 14 PGND

## LM25116
designator *
42V 宽输入电压同步降压控制器
footprint HSSOP20
pins: 1 VIN (power), 2 UVLO (power), 3 RT/SYNC (power), 4 EN (power), 5 RAMP (power), 6 AGND (power), 7 SS (power), 8 FB (power), 9 COMP (power), 10 VOUT (power), 11 DEMB (power), 12 CS (power), 13 CSG (power), 14 PGND (power), 15 LO (power), 16 VCC (power), 17 VCCX (power), 18 HB (power), 19 HO (power), 20 SW (power), 21 GND (power)

## LPC5516JBD100
designator U?
NXP单片机; Manufacturer_Part_Number: LPC5516JBD100; Built_By: EMA_Jessica; Vendor: NXP; C: Copyright (C) 2018 Accelerated Designs. All rights reserved; Copyright: Copyright (C) 2018 Accelerated Designs. All rights reserved; Value: Value; Type: Type; RefDes: RefDes
footprint HLQFP100 14x14_N (100脚(不计底部TP)，体宽14x14mm，脚距0.5mm)
pins: 1 PIO1_4 (io), 2 PIO1_13 (io), 3 PIO1_24 (io), 4 PIO1_20 (io), 5 PIO1_6 (io), 6 PIO0_7 (io), 7 PIO0_1 (io), 8 PIO0_17 (io), 9 PIO1_7 (io), 10 PIO1_9/ADC0_12 (io), 11 PIO1_0/ADC0_11 (io), 12 PIO0_12/ADC0_10 (io), 13 PIO0_11/ADC0_9 (io), 14 PIO0_16/ADC0_8 (io), 15 VDD (power), 16 VDDA (power), 17 VREFP (power), 18 VREFN (power), 19 VSSA (power), 20 PIO0_23/ADC0_0 (io), 21 PIO0_10/ADC0_1 (io), 22 PIO0_15/ADC0_2 (io), 23 PIO0_31/ADC0_3 (io), 24 PIO1_8/ADC0_4 (io), 25 VDD (power), 26 PIO0_8 (io), 27 PIO0_27 (io), 28 XTAL32M_N (out), 29 XTAL32M_P (in), 30 PIO1_21 (io), 31 PIO1_5 (io), 32 ~{RESET} (in), 33 USB1_VSS, 34 USB1_DP (io), 35 USB1_DM (io), 36 USB1_VBUS (in), 37 USB1_VSS, 38 USB1_3V3, 39 VDD_PMU (power), 40 PIO1_10 (io), 41 PIO1_22 (io), 42 PIO1_23 (io), 43 PIO1_17 (io), 44 VDD (power), 45 FB, 46 VSS_DCDC (power), 47 VSS_DCDC (power), 48 LX, 49 VBAT_DCDC, 50 VBAT_DCDC, 51 VBAT_PMU, 52 XTAL32K_P (in), 53 XTAL32K_N (out), 54 PIO0_0/ACMP0_A (io), 55 PIO0_9/ACMP0_B (io), 56 PIO0_18/ACMP0_C (io), 57 PIO1_14/ACMP0_D (io), 58 PIO1_19/ACMPVREF (io), 59 PIO1_1/WAKEUP (io), 60 PIO0_26 (io), 61 PIO1_2 (io), 62 PIO1_3 (io), 63 VDD (power), 64 PIO1_18/WAKUP (io), 65 PIO1_30/WAKEUP (io), 66 PIO0_28/WAKEUP (io), 67 PIO1_12 (io), 68 PIO1_26 (io), 69 VDD (power), 70 PIO0_24 (io), 71 PIO0_13 (io), 72 PIO0_14 (io), 73 PIO1_28 (io), 74 PIO0_20 (io), 75 VDD (power), 76 PIO0_21 (io), 77 PIO1_25 (io), 78 PIO0_22 (io), 79 PIO0_25 (io), 80 PIO1_29 (io), 81 PIO0_2/TRST (io), 82 PIO1_15 (io), 83 PIO0_3/TCK (io), 84 VDD (power), 85 PIO1_27 (io), 86 PIO0_4/TMS (io), 87 PIO1_16 (io), 88 PIO0_5/TDI (io), 89 PIO0_6/TDO (io), 90 PIO0_19 (io), 91 PIO1_31 (io), 92 PIO0_29 (io), 93 PIO1_11 (io), 94 PIO0_30 (io), 95 VDD (power), 96 USB0_3V3, 97 USB0_DP (io), 98 USB0_DM (io), 99 USB0_VSS, 100 VDD (power), 101 TP (power)

## LT1678
designator IC?
双运放; 版权归属: 黎明电子style; BOM名称: 双运放; 学习资源: https://lmdzstyle.taobao.com/
footprint SOP8_N (5*6*1.8mm（长宽高）)
footprint SOP8_L (5*6*1.8mm（长宽高）)
footprint SOP8_M (5*6*1.8mm（长宽高）)
part A pins: 1 OUT1, 2 -, 3 +, 4 V- (power), 8 V+ (power)
part B pins: 5 +, 6 -, 7 OUT2

## MAX232
designator IC?
版权归属: 黎明电子style; BOM名称: MAX232; 学习资源: https://lmdzstyle.taobao.com/
footprint DIP16-300 (19.3*7.6*3.8(长宽高）)
footprint SOP16_L (10.3*6.2*1.8mm（长宽高）)
footprint SOP16_N (10.3*6.2*1.8mm（长宽高）)
footprint SOP16_M (10.3*6.2*1.8mm（长宽高）)
pins: 1 C1+, 2 V+, 3 C1-, 4 C2+, 5 C2-, 6 V-, 7 T2OUT, 8 R2IN, 9 R2OUT, 10 T2IN, 11 T1IN, 12 R1OUT, 13 R1IN, 14 T1OUT, 15 GND, 16 VCC

## MAX4173
designator IC?, comment MAX4173T
高端电流检测; 版权归属: 黎明电子style; BOM名称: 高端电流检测; 学习资源: https://lmdzstyle.taobao.com/
footprint SOT23-6N (3x1.6x1.1mm(长宽高))
footprint SOT23-6L (3x1.6x1.1mm(长宽高))
footprint SOT23-6M (3x1.6x1.1mm(长宽高))
pins: 1 GND, 2 GND, 3 VCC, 4 RS+, 5 RS-, 6 OUT

## MC34063
designator IC?
DC升降压芯片; 版权归属: 黎明电子style; BOM名称: DC升降压芯片; 学习资源: https://lmdzstyle.taobao.com/
footprint SOP8_L (5*6*1.8mm（长宽高）)
footprint SOP8_N (5*6*1.8mm（长宽高）)
footprint SOP8_M (5*6*1.8mm（长宽高）)
footprint DIP8-300 (9.4*7.6*3.8(长宽高）)
pins: 1 SWC, 2 SWE, 3 TC, 4 GND, 5 CII, 6 VCC, 7 IPK, 8 DEC

## MCP23017-E/SS
designator *
footprint SSOP28_M (10.2*7.8*1.9mm(长宽高）)
pins: 1 GPB0 , 2 GPB1 , 3 GPB2 , 4 GPB3 , 5 GPB4 , 6 GPB5 , 7 GPB6 , 8 GPB7 , 9 VDD , 10 VSS , 11 NC , 12 SCL , 13 SDA , 14 NC , 15 A0 , 16 A1 , 17 A2 , 18 /RST , 19 INTB , 20 INTA , 21 GPA0 , 22 GPA1 , 23 GPA2 , 24 GPA3 , 25 GPA4 , 26 GPA5 , 27 GPA6 , 28 GPA7 

## ME2100
designator IC?, comment ME2100FM5G
可调升压芯片; 版权归属: 黎明电子style; BOM名称: 可调升压芯片; 学习资源: https://lmdzstyle.taobao.com/
footprint SOT23-5N (3x1.6x1.1mm(长宽高))
footprint SOT23-5L (3x1.6x1.1mm(长宽高))
footprint SOT23-5M (3x1.6x1.1mm(长宽高))
pins: 1 FB, 2 VDD, 3 NC, 4 GND, 5 EXT

## ME4057
designator IC?
锂电池充电管理IC; BOM名称: 充电管理IC; 版权归属: 黎明电子style; 学习资源: https://lmdzstyle.taobao.com/
footprint SOP8_N (5*6*1.8mm（长宽高）)
footprint SOP8_L (5*6*1.8mm（长宽高）)
footprint SOP8_M (5*6*1.8mm（长宽高）)
pins: 1 TEMP, 2 PROG, 3 GND, 4 VCC, 5 BAT, 6 ~{STDBY}, 7 ~{CHRG}, 8 CE

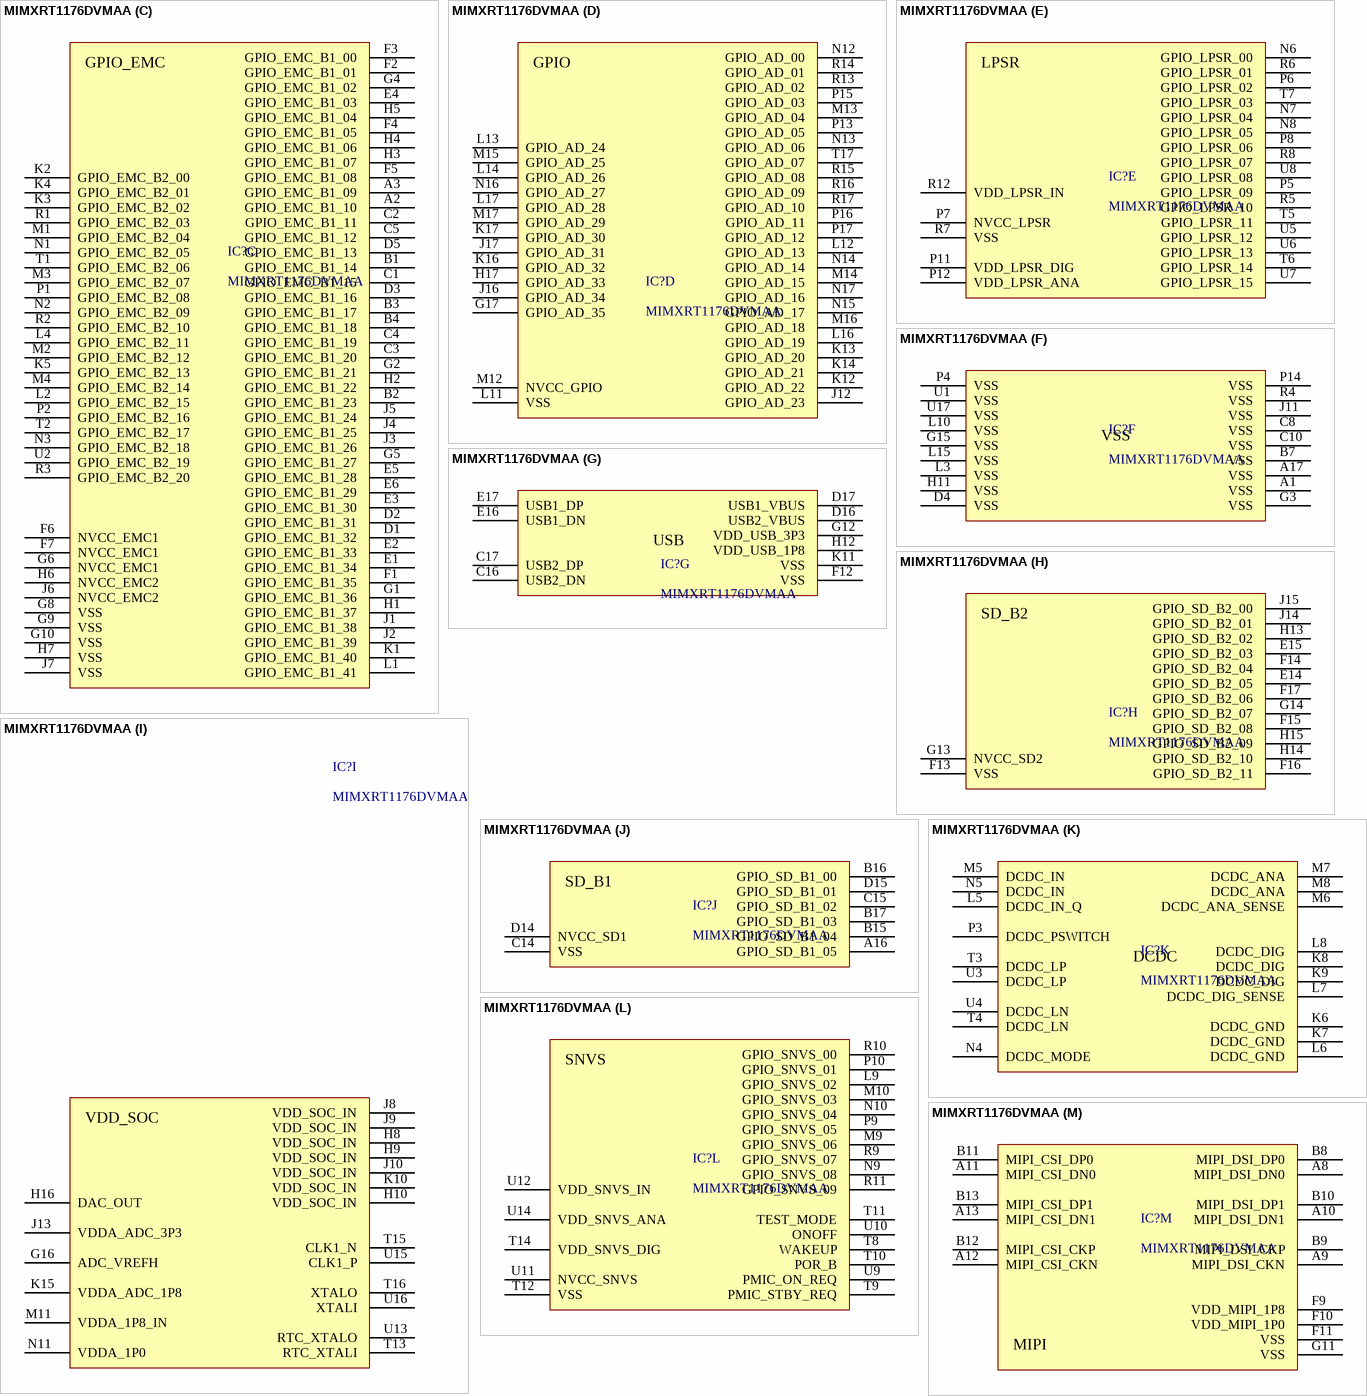
[diagram p4: symbol MIMXRT1176DVMAA]

## MIMXRT1176DVMAA
designator IC?
MCU
footprint BGA289C80P17X17_1400X1400X152 (BGA, 289-Leads, Body 14.00x14.00mmx1.52mm, Pitch 0.80mm)
part A pins: A4  GPIO_DISP_B2_15 , A5  GPIO_DISP_B2_13 , A6  GPIO_DISP_B2_11 , A7  GPIO_DISP_B2_14 , B5  GPIO_DISP_B2_08 , B6  GPIO_DISP_B2_12 , C6  GPIO_DISP_B2_06 , C7  GPIO_DISP_B2_04 , C9  GPIO_DISP_B2_05 , D6  GPIO_DISP_B2_07 , D7  GPIO_DISP_B2_03 , D8  GPIO_DISP_B2_09 , D9  GPIO_DISP_B2_10 , E7 NVCC_DISP2 , E8  GPIO_DISP_B2_00 , E9  GPIO_DISP_B2_02 , F8  GPIO_DISP_B2_01 , G7 VSS 
part B pins: A14  GPIO_DISP_B1_11 , A15  GPIO_DISP_B1_08 , B14  GPIO_DISP_B1_10 , C11  GPIO_DISP_B1_05 , C12 VSS , C13  GPIO_DISP_B1_09 , D10  GPIO_DISP_B1_06 , D11  GPIO_DISP_B1_02 , D12 NVCC_DISP1 , D13  GPIO_DISP_B1_01 , E10  GPIO_DISP_B1_04 , E11  GPIO_DISP_B1_03 , E12  GPIO_DISP_B1_07 , E13  GPIO_DISP_B1_00 
part C pins: A2  GPIO_EMC_B1_10 , A3  GPIO_EMC_B1_09 , B1  GPIO_EMC_B1_14 , B2  GPIO_EMC_B1_23 , B3  GPIO_EMC_B1_17 , B4  GPIO_EMC_B1_18 , C1  GPIO_EMC_B1_15 , C2  GPIO_EMC_B1_11 , C3  GPIO_EMC_B1_20 , C4  GPIO_EMC_B1_19 , C5  GPIO_EMC_B1_12 , D1  GPIO_EMC_B1_32 , D2  GPIO_EMC_B1_31 , D3  GPIO_EMC_B1_16 , D5  GPIO_EMC_B1_13 , E1  GPIO_EMC_B1_34 , E2  GPIO_EMC_B1_33 , E3  GPIO_EMC_B1_30 , E4  GPIO_EMC_B1_03 , E5  GPIO_EMC_B1_28 , E6  GPIO_EMC_B1_29 , F1  GPIO_EMC_B1_35 , F2  GPIO_EMC_B1_01 , F3  GPIO_EMC_B1_00 , F4  GPIO_EMC_B1_05 , F5  GPIO_EMC_B1_08 , F6 NVCC_EMC1, F7 NVCC_EMC1, G1  GPIO_EMC_B1_36 , G2  GPIO_EMC_B1_21 , G4  GPIO_EMC_B1_02 , G5  GPIO_EMC_B1_27 , G6 NVCC_EMC1 , G8 VSS , G9 VSS , G10 VSS , H1  GPIO_EMC_B1_37 , H2  GPIO_EMC_B1_22 , H3  GPIO_EMC_B1_07 , H4  GPIO_EMC_B1_06 , H5  GPIO_EMC_B1_04 , H6 NVCC_EMC2, H7 VSS , J1  GPIO_EMC_B1_38 , J2  GPIO_EMC_B1_39 , J3  GPIO_EMC_B1_26 , J4  GPIO_EMC_B1_25 , J5  GPIO_EMC_B1_24 , J6 NVCC_EMC2 , J7 VSS , K1  GPIO_EMC_B1_40 , K2  GPIO_EMC_B2_00 , K3  GPIO_EMC_B2_02 , K4  GPIO_EMC_B2_01 , K5  GPIO_EMC_B2_13 , L1  GPIO_EMC_B1_41 , L2  GPIO_EMC_B2_15 , L4  GPIO_EMC_B2_11 , M1  GPIO_EMC_B2_04 , M2  GPIO_EMC_B2_12 , M3  GPIO_EMC_B2_07 , M4  GPIO_EMC_B2_14 , N1  GPIO_EMC_B2_05 , N2  GPIO_EMC_B2_09 , N3  GPIO_EMC_B2_18 , P1  GPIO_EMC_B2_08 , P2  GPIO_EMC_B2_16 , R1  GPIO_EMC_B2_03 , R2  GPIO_EMC_B2_10 , R3  GPIO_EMC_B2_20 , T1  GPIO_EMC_B2_06 , T2  GPIO_EMC_B2_17 , U2  GPIO_EMC_B2_19 
part D pins: G17  GPIO_AD_35 , H17  GPIO_AD_33 , J12  GPIO_AD_23 , J16  GPIO_AD_34 , J17  GPIO_AD_31 , K12  GPIO_AD_22 , K13  GPIO_AD_20 , K14  GPIO_AD_21 , K16  GPIO_AD_32 , K17  GPIO_AD_30 , L11 VSS , L12  GPIO_AD_13 , L13  GPIO_AD_24 , L14  GPIO_AD_26 , L16  GPIO_AD_19 , L17  GPIO_AD_28 , M12 NVCC_GPIO , M13  GPIO_AD_04 , M14  GPIO_AD_15 , M15  GPIO_AD_25 , M16  GPIO_AD_18 , M17  GPIO_AD_29 , N12  GPIO_AD_00 , N13  GPIO_AD_06 , N14  GPIO_AD_14 , N15  GPIO_AD_17 , N16  GPIO_AD_27 , N17  GPIO_AD_16 , P13  GPIO_AD_05 , P15  GPIO_AD_03 , P16  GPIO_AD_11 , P17  GPIO_AD_12 , R13  GPIO_AD_02 , R14  GPIO_AD_01 , R15  GPIO_AD_08 , R16  GPIO_AD_09 , R17  GPIO_AD_10 , T17  GPIO_AD_07 
part E pins: N6  GPIO_LPSR_00 , N7  GPIO_LPSR_04 , N8  GPIO_LPSR_05 , P5  GPIO_LPSR_09 , P6  GPIO_LPSR_02 , P7 NVCC_LPSR , P8  GPIO_LPSR_06 , P11 VDD_LPSR_DIG , P12 VDD_LPSR_ANA , R5  GPIO_LPSR_10 , R6  GPIO_LPSR_01 , R7 VSS , R8  GPIO_LPSR_07 , R12 VDD_LPSR_IN , T5  GPIO_LPSR_11 , T6  GPIO_LPSR_14 , T7  GPIO_LPSR_03 , U5  GPIO_LPSR_12 , U6  GPIO_LPSR_13 , U7  GPIO_LPSR_15 , U8  GPIO_LPSR_08 
part F pins: A1 VSS , A17 VSS , B7 VSS , C8 VSS , C10 VSS , D4 VSS , G3 VSS , G15 VSS , H11 VSS , J11 VSS , L3 VSS , L10 VSS , L15 VSS , P4 VSS , P14 VSS , R4 VSS , U1 VSS , U17 VSS 
part G pins: C16  USB2_DN , C17  USB2_DP , D16  USB2_VBUS , D17  USB1_VBUS , E16  USB1_DN , E17  USB1_DP , F12 VSS , G12 VDD_USB_3P3 , H12 VDD_USB_1P8 , K11 VSS 
part H pins: E14  GPIO_SD_B2_05 , E15  GPIO_SD_B2_03 , F13 VSS , F14  GPIO_SD_B2_04 , F15  GPIO_SD_B2_08 , F16  GPIO_SD_B2_11 , F17  GPIO_SD_B2_06 , G13 NVCC_SD2 , G14  GPIO_SD_B2_07 , H13  GPIO_SD_B2_02 , H14  GPIO_SD_B2_10 , H15  GPIO_SD_B2_09 , J14  GPIO_SD_B2_01 , J15  GPIO_SD_B2_00 
part I pins: G16 ADC_VREFH , H8 VDD_SOC_IN , H9 VDD_SOC_IN , H10 VDD_SOC_IN , H16 DAC_OUT , J8 VDD_SOC_IN , J9 VDD_SOC_IN , J10 VDD_SOC_IN , J13  VDDA_ADC_3P3 , K10 VDD_SOC_IN , K15 VDDA_ADC_1P8 , M11  VDDA_1P8_IN , N11  VDDA_1P0 , T13  RTC_XTALI , T15  CLK1_N , T16  XTALO , U13  RTC_XTALO , U15  CLK1_P , U16  XTALI 
part J pins: A16  GPIO_SD_B1_05 , B15  GPIO_SD_B1_04 , B16  GPIO_SD_B1_00 , B17  GPIO_SD_B1_03 , C14 VSS , C15  GPIO_SD_B1_02 , D14 NVCC_SD1 , D15  GPIO_SD_B1_01 
part K pins: K6 DCDC_GND , K7 DCDC_GND , K8 DCDC_DIG , K9 DCDC_DIG , L5 DCDC_IN_Q , L6 DCDC_GND , L7 DCDC_DIG_SENSE , L8 DCDC_DIG , M5 DCDC_IN , M6 DCDC_ANA_SENSE , M7 DCDC_ANA , M8 DCDC_ANA , N4 DCDC_MODE , N5 DCDC_IN , P3 DCDC_PSWITCH , T3 DCDC_LP , T4 DCDC_LN , U3 DCDC_LP , U4 DCDC_LN 
part L pins: L9  GPIO_SNVS_02 , M9  GPIO_SNVS_06 , M10  GPIO_SNVS_03 , N9  GPIO_SNVS_08 , N10  GPIO_SNVS_04 , P9  GPIO_SNVS_05 , P10  GPIO_SNVS_01 , R9  GPIO_SNVS_07 , R10  GPIO_SNVS_00 , R11  GPIO_SNVS_09 , T8  WAKEUP , T9  PMIC_STBY_REQ , T10  POR_B , T11  TEST_MODE , T12 VSS , T14  VDD_SNVS_DIG , U9  PMIC_ON_REQ , U10  ONOFF , U11 NVCC_SNVS , U12  VDD_SNVS_IN , U14  VDD_SNVS_ANA 
part M pins: A8  MIPI_DSI_DN0 , A9  MIPI_DSI_CKN , A10  MIPI_DSI_DN1 , A11  MIPI_CSI_DN0 , A12  MIPI_CSI_CKN , A13  MIPI_CSI_DN1 , B8  MIPI_DSI_DP0 , B9  MIPI_DSI_CKP , B10  MIPI_DSI_DP1 , B11  MIPI_CSI_DP0 , B12  MIPI_CSI_CKP , B13  MIPI_CSI_DP1 , F9 VDD_MIPI_1P8 , F10 VDD_MIPI_1P0 , F11 VSS , G11 VSS 
part A text: DISP_B2
part B text: DISP_B1
part C text: GPIO_EMC
part D text: GPIO
part E text: LPSR
part G text: USB
part H text: SD_B2
part I text: VDD_SOC
part J text: SD_B1
part K text: DCDC
part L text: SNVS
part M text: MIPI

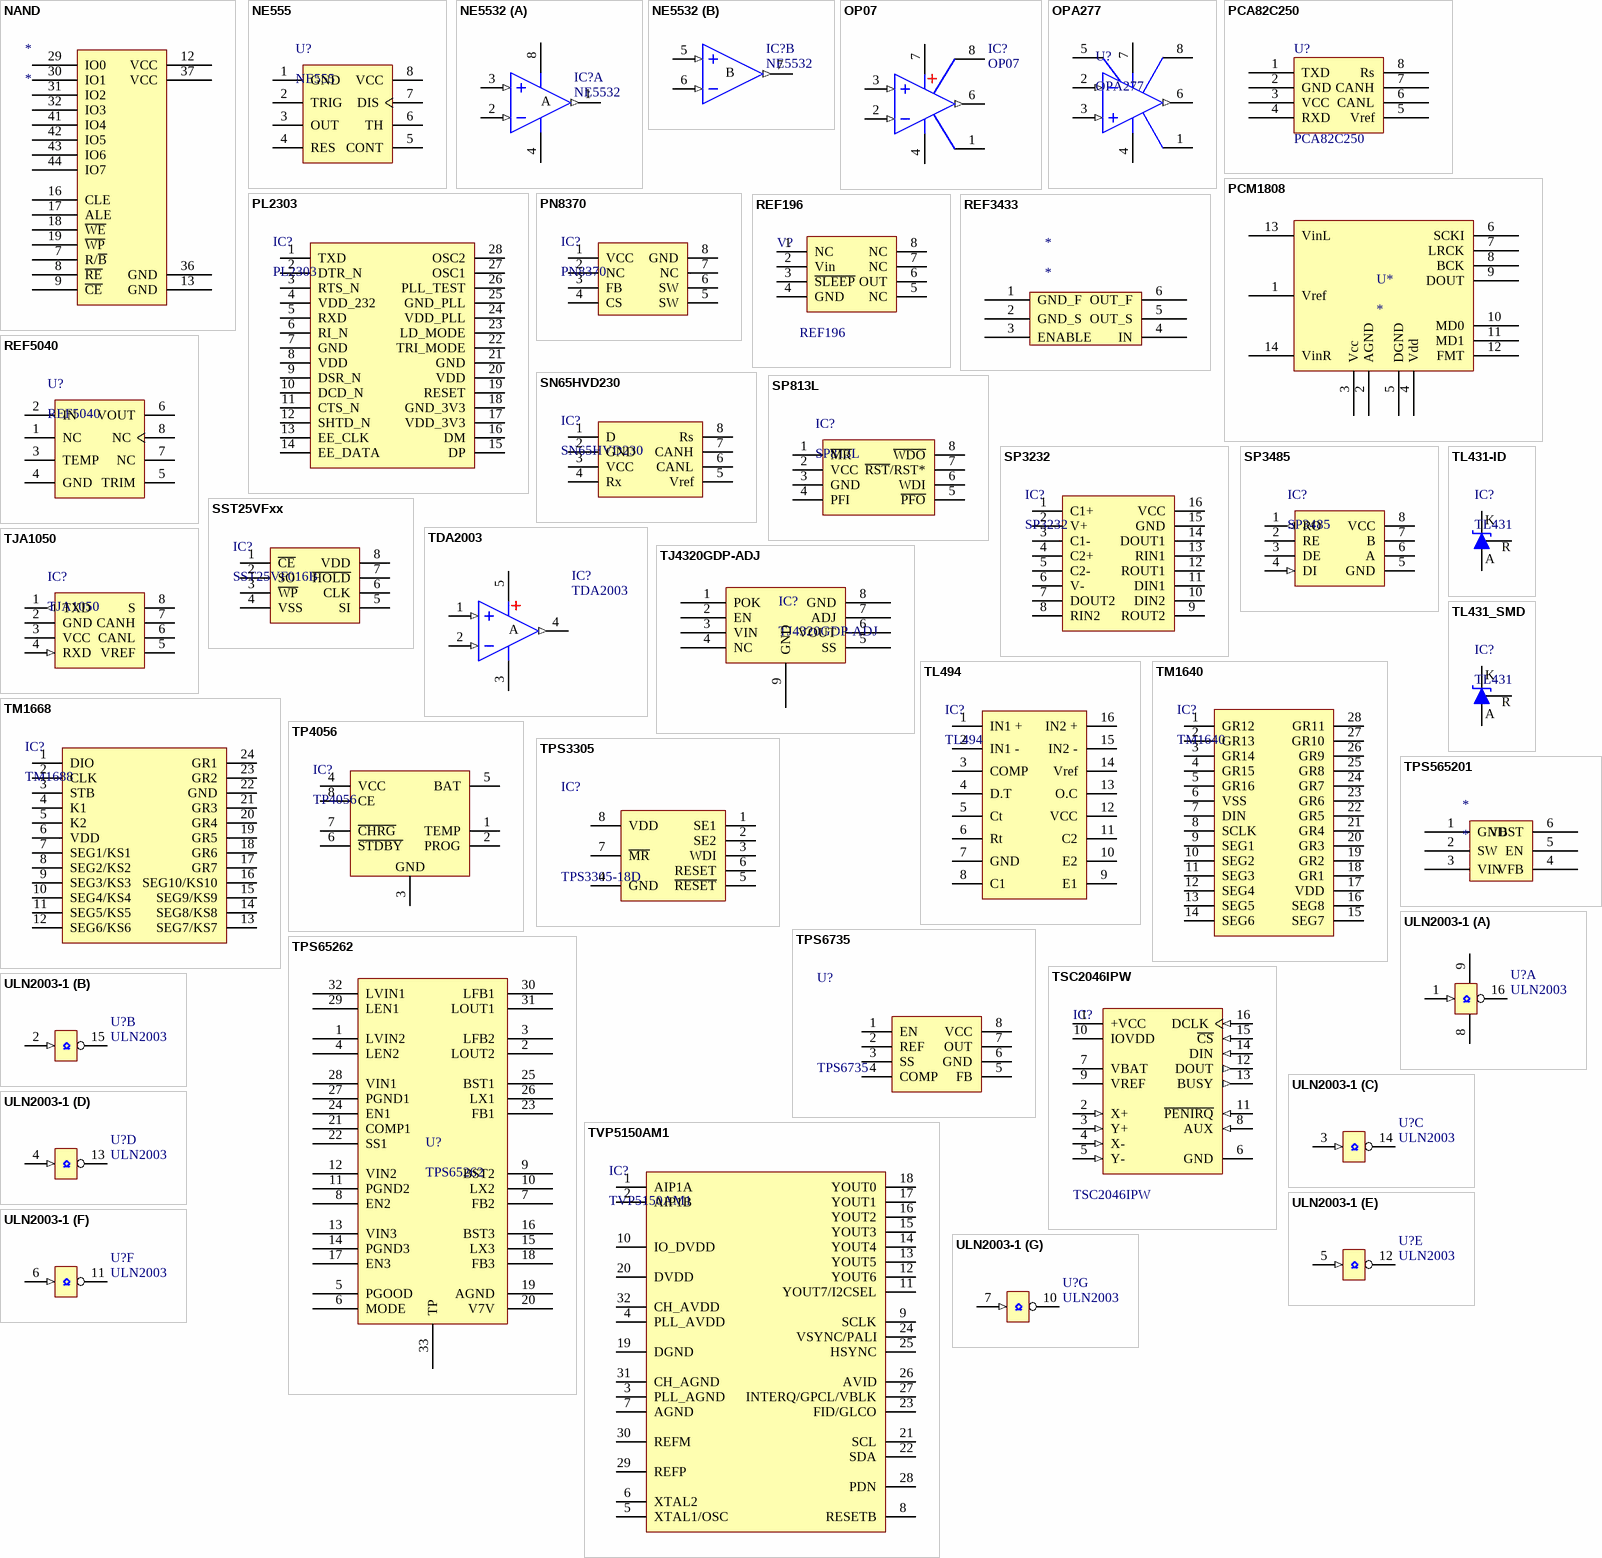
[diagram p5: symbols NAND to ULN2003-1]

## NAND
designator *
footprint SP-TSOP48-0.5-A (TSOP48底座)
pins: 7 R/~{B}, 8 ~{RE}, 9 ~{CE}, 12 VCC, 13 GND, 16 CLE, 17 ALE, 18 ~{WE}, 19 ~{WP}, 29 IO0, 30 IO1, 31 IO2, 32 IO3, 36 GND, 37 VCC, 41 IO4, 42 IO5, 43 IO6, 44 IO7

## NE555
designator U?
单路时基芯片; 版权归属: 黎明电子style; BOM名称: 单路时基芯片; 学习资源: https://lmdzstyle.taobao.com/
footprint SOP8_L (5*6*1.8mm（长宽高）)
footprint SOP8_M (5*6*1.8mm（长宽高）)
footprint SOP8_N (5*6*1.8mm（长宽高）)
footprint DIP8-300 (9.4*7.6*3.8(长宽高）)
footprint DIP8-300_MH (带底座 9.4*7.6*3.8(长宽高）)
pins: 1 GND, 2 TRIG, 3 OUT, 4 RES, 5 CONT, 6 TH, 7 DIS, 8 VCC

## NE5532
designator IC?
双路低噪声音频运放; 版权归属: 黎明电子style; BOM名称: 双路低噪声音频运放; 学习资源: https://lmdzstyle.taobao.com/
footprint SOP8_L (5*6*1.8mm（长宽高）)
footprint SOP8_N (5*6*1.8mm（长宽高）)
footprint SOP8_M (5*6*1.8mm（长宽高）)
footprint DIP8-300 (9.4*7.6*3.8(长宽高）)
part A pins: 1 OUT (out), 2 IN- (in), 3 IN+ (in), 4 V- (power), 8 V+ (power)
part B pins: 5 IN+ (in), 6 IN- (in), 7 OUT (out)
part A text: A
part B text: B

## OP07
designator IC?
单路精密运放; 版权归属: 黎明电子style; BOM名称: 单路精密运放; 学习资源: https://lmdzstyle.taobao.com/
footprint SOP8_L (5*6*1.8mm（长宽高）)
footprint SOP8_N (5*6*1.8mm（长宽高）)
footprint SOP8_M (5*6*1.8mm（长宽高）)
footprint DIP8-300 (9.4*7.6*3.8(长宽高）)
pins: 1, 2 IN- (in), 3 IN+ (in), 4 V- (power), 6 OUT (out), 7 V+ (power), 8

## OPA277
designator U?
双电源高精度运放; 版权归属: 黎明电子style; BOM名称: 双电源高精度运放; 学习资源: https://lmdzstyle.taobao.com/
footprint SOP8_N (5*6*1.8mm（长宽高）)
footprint SOP8_L (5*6*1.8mm（长宽高）)
footprint SOP8_M (5*6*1.8mm（长宽高）)
pins: 1, 2 IN- (in), 3 IN+ (in), 4 V- (power), 5 NC (power), 6 OS NUL (out), 7, 8

## PCA82C250
designator U?
CAN收发器
footprint SOP8_L (5*6*1.8mm（长宽高）)
pins: 1 TXD, 2 GND, 3 VCC, 4 RXD, 5 Vref, 6 CANL, 7 CANH, 8 Rs

## PCM1808
designator U*
音频ADC
footprint TSSOP14_L (5*6.4*1mm（长宽高）)
pins: 1 Vref, 2 AGND, 3 Vcc, 4 Vdd, 5 DGND, 6 SCKI, 7 LRCK, 8 BCK, 9 DOUT, 10 MD0, 11 MD1, 12 FMT, 13 VinL, 14 VinR

## PL2303
designator IC?
USB转RS232; 版权归属: 黎明电子style; BOM名称: USB转RS232; 学习资源: https://lmdzstyle.taobao.com/
footprint SSOP28_N (10.2*7.8*1.9mm(长宽高）)
footprint SSOP28_L (10.2*7.8*1.9mm(长宽高）)
footprint SSOP28_M (10.2*7.8*1.9mm(长宽高）)
pins: 1 TXD, 2 DTR_N, 3 RTS_N, 4 VDD_232, 5 RXD, 6 RI_N, 7 GND, 8 VDD, 9 DSR_N, 10 DCD_N, 11 CTS_N, 12 SHTD_N, 13 EE_CLK, 14 EE_DATA, 15 DP, 16 DM, 17 VDD_3V3, 18 GND_3V3, 19 RESET, 20 VDD, 21 GND, 22 TRI_MODE, 23 LD_MODE, 24 VDD_PLL, 25 GND_PLL, 26 PLL_TEST, 27 OSC1, 28 OSC2

## PN8370
designator IC?
电源管理IC; 版权归属: 黎明电子style; BOM名称: 电源管理IC; 学习资源: https://lmdzstyle.taobao.com/
footprint SOP8_N (5*6*1.8mm（长宽高）)
footprint SOP8_M (5*6*1.8mm（长宽高）)
footprint SOP8_L (5*6*1.8mm（长宽高）)
pins: 1 VCC, 2 NC, 3 FB, 4 CS, 5 SW, 6 SW, 7 NC, 8 GND

## REF196
designator V?
3V3基准电压源; 版权归属: 黎明电子style; BOM名称: 3V3基准电压; 学习资源: https://lmdzstyle.taobao.com/
footprint SOP8_L (5*6*1.8mm（长宽高）)
footprint SOP8_N (5*6*1.8mm（长宽高）)
footprint SOP8_M (5*6*1.8mm（长宽高）)
pins: 1 NC, 2 Vin, 3 ~{SLEEP}, 4 GND, 5 NC, 6 OUT, 7 NC, 8 NC

## REF3433
designator *
电压基准
footprint SOT23-6L (3x1.6x1.1mm(长宽高))
pins: 1 GND_F (power), 2 GND_S (power), 3 ENABLE (power), 4 IN (power), 5 OUT_S (power), 6 OUT_F (power)

## REF5040
designator U?
高精度电压基准; 版权归属: 黎明电子style; BOM名称: 高精度电压基准; 学习资源: https://lmdzstyle.taobao.com/
footprint SOP8_L (5*6*1.8mm（长宽高）)
footprint SOP8_M (5*6*1.8mm（长宽高）)
footprint SOP8_N (5*6*1.8mm（长宽高）)
footprint DIP8-300 (9.4*7.6*3.8(长宽高）)
footprint DIP8-300_MH (带底座 9.4*7.6*3.8(长宽高）)
pins: 1 NC, 2 IN, 3 TEMP, 4 GND, 5 TRIM, 6 VOUT, 7 NC, 8 NC

## SN65HVD230
designator IC?
CAN芯片; 版权归属: 黎明电子style; BOM名称: CAN芯片; 学习资源: https://lmdzstyle.taobao.com/
footprint SOP8_N (5*6*1.8mm（长宽高）)
footprint SOP8_L (5*6*1.8mm（长宽高）)
footprint SOP8_M (5*6*1.8mm（长宽高）)
pins: 1 D, 2 GND, 3 VCC, 4 Rx, 5 Vref, 6 CANL, 7 CANH, 8 Rs

## SP813L
designator IC?
处理器监控芯片; 版权归属: 黎明电子style; BOM名称: 处理器监控芯片; 学习资源: https://lmdzstyle.taobao.com/
footprint SOP8_L (5*6*1.8mm（长宽高）)
footprint SOP8_N (5*6*1.8mm（长宽高）)
footprint SOP8_M (5*6*1.8mm（长宽高）)
pins: 1 ~{MR}, 2 VCC, 3 GND, 4 PFI, 5 ~{PFO}, 6 WDI, 7 ~{RST}/RST*, 8 ~{WDO}

## SP3232
designator IC?
RS232通讯芯片; 版权归属: 黎明电子style; BOM名称: RS232通讯芯片; 学习资源: https://lmdzstyle.taobao.com/
footprint DIP16-300 (19.3*7.6*3.8(长宽高）)
footprint SOP16_L (10.3*6.2*1.8mm（长宽高）)
footprint SOP16_N (10.3*6.2*1.8mm（长宽高）)
footprint SOP16_M (10.3*6.2*1.8mm（长宽高）)
footprint TSSOP16_L (5*6.4*1mm（长宽高）)
footprint TSSOP16_M (5*6.4*1mm（长宽高）)
footprint TSSOP16_N (5*6.4*1mm（长宽高）)
pins: 1 C1+, 2 V+, 3 C1-, 4 C2+, 5 C2-, 6 V-, 7 DOUT2, 8 RIN2, 9 ROUT2, 10 DIN2, 11 DIN1, 12 ROUT1, 13 RIN1, 14 DOUT1, 15 GND, 16 VCC

## SP3485
designator IC?
RS485总线收发芯片; 版权归属: 黎明电子style; BOM名称: RS485总线收发芯片; 学习资源: https://lmdzstyle.taobao.com/
footprint SOP8_L (5*6*1.8mm（长宽高）)
footprint SOP8_N (5*6*1.8mm（长宽高）)
footprint SOP8_M (5*6*1.8mm（长宽高）)
pins: 1 RO (out), 2 RE, 3 DE, 4 DI (in), 5 GND, 6 A, 7 B, 8 VCC

## SST25VFxx
designator IC?, comment SST25VF016B
外置Flash; 版权归属: 黎明电子style; BOM名称: 外置Flash; 学习资源: https://lmdzstyle.taobao.com/
footprint SOP8W_N (5.3*8.3*1.8mm（长宽高）)
footprint SOP8W_L (5.3*8.3*1.8mm（长宽高）)
footprint SOP8W_M (5.3*8.3*1.8mm（长宽高）)
pins: 1 ~{CE}, 2 SO, 3 ~{WP}, 4 VSS, 5 SI, 6 CLK, 7 ~{HOLD}, 8 VDD

## TDA2003
designator IC?
单路音频功放; 版权归属: 黎明电子style; BOM名称: 单路音频功放; 学习资源: https://lmdzstyle.taobao.com/
footprint SOP8_L (5*6*1.8mm（长宽高）)
footprint SOP8_N (5*6*1.8mm（长宽高）)
footprint SOP8_M (5*6*1.8mm（长宽高）)
footprint DIP8-300 (9.4*7.6*3.8(长宽高）)
pins: 1 IN+ (in), 2 IN- (in), 3 V- (power), 4 OUT (out), 5 V+ (power)
text: A

## TJ4320GDP-ADJ
designator IC?
多功能LDO
footprint SOP8_EP_L (5*6*1.8mm（长宽高）)
pins: 1 POK, 2 EN, 3 VIN, 4 NC, 5 SS, 6 VOUT, 7 ADJ, 8 GND, 9 GND

## TJA1050
designator IC?
CAN总线收发芯片; 版权归属: 黎明电子style; BOM名称: CAN总线收发芯片; 学习资源: https://lmdzstyle.taobao.com/
footprint SOP8_L (5*6*1.8mm（长宽高）)
footprint SOP8_N (5*6*1.8mm（长宽高）)
footprint SOP8_M (5*6*1.8mm（长宽高）)
pins: 1 TXD (out), 2 GND, 3 VCC, 4 RXD (in), 5 VREF, 6 CANL, 7 CANH, 8 S

## TL431-ID
designator IC?, comment TL431
可调基准稳压芯片; 版权归属: 黎明电子style; BOM名称: 可调基准稳压芯片; 学习资源: https://lmdzstyle.taobao.com/
footprint TO92A (92晶体管)
footprint TO92B (92晶体管)
pins: 1 R, 2 A, 3 K

## TL431_SMD
designator IC?, comment TL431
可调基准稳压芯片; 版权归属: 黎明电子style; BOM名称: 可调基准稳压芯片; 学习资源: https://lmdzstyle.taobao.com/
footprint SOT23-3N (3x1.3x1mm(长宽高))
footprint SOT23-3L (3x1.3x1mm(长宽高))
footprint SOT23-3M (3x1.3x1mm(长宽高))
pins: 1 R, 2 K, 3 A

## TL494
designator IC?
电源管理IC; 版权归属: 黎明电子style; BOM名称: 电源管理IC; 学习资源: https://lmdzstyle.taobao.com/
footprint DIP16-300 (19.3*7.6*3.8(长宽高）)
footprint SOP16_L (10.3*6.2*1.8mm（长宽高）)
footprint SOP16_N (10.3*6.2*1.8mm（长宽高）)
footprint SOP16_M (10.3*6.2*1.8mm（长宽高）)
pins: 1 IN1 +, 2 IN1 -, 3 COMP, 4 D.T, 5 Ct, 6 Rt, 7 GND, 8 C1, 9 E1, 10 E2, 11 C2, 12 VCC, 13 O.C, 14 Vref, 15 IN2 -, 16 IN2 +

## TM1640
designator IC?
LED驱动控制芯片; 版权归属: 黎明电子style; BOM名称: LED驱动控制芯片; 学习资源: https://lmdzstyle.taobao.com/
footprint SOP28_L (17.9*10.6*2.6mm（长宽高）)
footprint SOP28_M (17.9*10.6*2.6mm（长宽高）)
footprint SOP28_N (17.9*10.6*2.6mm（长宽高）)
pins: 1 GR12, 2 GR13, 3 GR14, 4 GR15, 5 GR16, 6 VSS, 7 DIN, 8 SCLK, 9 SEG1, 10 SEG2, 11 SEG3, 12 SEG4, 13 SEG5, 14 SEG6, 15 SEG7, 16 SEG8, 17 VDD, 18 GR1, 19 GR2, 20 GR3, 21 GR4, 22 GR5, 23 GR6, 24 GR7, 25 GR8, 26 GR9, 27 GR10, 28 GR11

## TM1668
designator IC?, comment TM1688
数码管按键扫描芯片; BOM名称: 数码管按键芯片; 版权归属: 黎明电子style; 学习资源: https://lmdzstyle.taobao.com/
footprint SOP24_N (15.4*10.6*2.6mm（长宽高）)
footprint SOP24_L (15.4*10.6*2.6mm（长宽高）)
footprint SOP24_M (15.4*10.6*2.6mm（长宽高）)
pins: 1 DIO, 2 CLK, 3 STB, 4 K1, 5 K2, 6 VDD, 7 SEG1/KS1, 8 SEG2/KS2, 9 SEG3/KS3, 10 SEG4/KS4, 11 SEG5/KS5, 12 SEG6/KS6, 13 SEG7/KS7, 14 SEG8/KS8, 15 SEG9/KS9, 16 SEG10/KS10, 17 GR7, 18 GR6, 19 GR5, 20 GR4, 21 GR3, 22 GND, 23 GR2, 24 GR1

## TP4056
designator IC?
锂电池充电管理; 版权归属: 黎明电子style; BOM名称: 锂电池充电管理; 学习资源: https://lmdzstyle.taobao.com/
footprint SOP8_N (5*6*1.8mm（长宽高）)
footprint SOP8_L (5*6*1.8mm（长宽高）)
footprint SOP8_M (5*6*1.8mm（长宽高）)
pins: 1 TEMP, 2 PROG, 3 GND, 4 VCC, 5 BAT, 6 ~{STDBY}, 7 ~{CHRG}, 8 CE

## TPS3305
designator IC?, comment TPS3305-18D
DSP电源管理; 版权归属: 黎明电子style; BOM名称: DSP电源管理; 学习资源: https://lmdzstyle.taobao.com/
footprint SSOP8_N (3*6.4*1.2mm（长宽高）)
footprint SSOP8_L (3*6.4*1.2mm（长宽高）)
footprint SSOP8_M (3*6.4*1.2mm（长宽高）)
pins: 1 SE1, 2 SE2, 3 WDI, 4 GND, 5 ~{RESET}, 6 RESET, 7 ~{MR}, 8 VDD

## TPS6735
designator U?
负电压转换芯片; BOM名称: 负电压芯片; 版权归属: 黎明电子style; 学习资源: https://lmdzstyle.taobao.com/
footprint SOP8_N (5*6*1.8mm（长宽高）)
footprint SOP8_L (5*6*1.8mm（长宽高）)
footprint SOP8_M (5*6*1.8mm（长宽高）)
pins: 1 EN, 2 REF, 3 SS, 4 COMP, 5 FB, 6 GND, 7 OUT, 8 VCC

## TPS65262
designator U?
具有 200mA/100mA 双 LDO 的 18V 输入、3A/1A/1A 三路同步降压转换器
footprint QFN32 5x5_N (32脚，长：5mm，宽：5mm，高：9.5mm)
pins: 1 LVIN2 , 2 LOUT2 , 3 LFB2 , 4 LEN2 , 5 PGOOD , 6 MODE , 7 FB2 , 8 EN2 , 9 BST2 , 10 LX2 , 11 PGND2 , 12 VIN2 , 13 VIN3 , 14 PGND3 , 15 LX3 , 16 BST3 , 17 EN3 , 18 FB3 , 19 AGND , 20 V7V , 21 COMP1 , 22 SS1 , 23 FB1 , 24 EN1 , 25 BST1 , 26 LX1 , 27 PGND1 , 28 VIN1 , 29 LEN1 , 30 LFB1 , 31 LOUT1 , 32 LVIN1 , 33 TP

## TPS565201
designator *
4.5V 至 17V 输入、5A 同步降压稳压器
footprint SOT23-6L (3x1.6x1.1mm(长宽高))
pins: 1 GND, 2 SW, 3 VIN, 4 VFB, 5 EN, 6 VBST

## TSC2046IPW
designator IC?
显示屏触摸驱动芯片; BOM名称: 触摸驱动芯片; 版权归属: 黎明电子style; 学习资源: https://lmdzstyle.taobao.com/
footprint TSSOP16_N (5*6.4*1mm（长宽高）)
footprint TSSOP16_L (5*6.4*1mm（长宽高）)
footprint TSSOP16_M (5*6.4*1mm（长宽高）)
pins: 1 +VCC (power), 2 X+ (in), 3 Y+ (in), 4 X- (in), 5 Y- (in), 6 GND (power), 7 VBAT (power), 8 AUX (in), 9 VREF (power), 10 IOVDD (power), 11 ~{PENIRQ} (in), 12 DOUT (out), 13 BUSY (out), 14 DIN (in), 15 ~{CS} (in), 16 DCLK (in)

## TVP5150AM1
designator IC?
视频解码芯片; 版权归属: 黎明电子style; BOM名称: 视频解码芯片; 学习资源: https://lmdzstyle.taobao.com/
footprint TQFP32 5x5_N (32脚，体宽：5x5mm, 脚距：0.5mm)
footprint TQFP32 5x5_L (32脚，体宽：5x5mm, 脚距：0.5mm)
footprint TQFP32 5x5_M (32脚，体宽：5x5mm, 脚距：0.5mm)
pins: 1 AIP1A, 2 AIP1B, 3 PLL_AGND, 4 PLL_AVDD, 5 XTAL1/OSC, 6 XTAL2, 7 AGND, 8 RESETB, 9 SCLK, 10 IO_DVDD, 11 YOUT7/I2CSEL, 12 YOUT6, 13 YOUT5, 14 YOUT4, 15 YOUT3, 16 YOUT2, 17 YOUT1, 18 YOUT0, 19 DGND, 20 DVDD, 21 SCL, 22 SDA, 23 FID/GLCO, 24 VSYNC/PALI, 25 HSYNC, 26 AVID, 27 INTERQ/GPCL/VBLK, 28 PDN, 29 REFP, 30 REFM, 31 CH_AGND, 32 CH_AVDD

## ULN2003-1
designator U?, comment ULN2003
达林顿驱动芯片; 版权归属: 黎明电子style; BOM名称: 达林顿驱动芯片; 学习资源: https://lmdzstyle.taobao.com/
footprint DIP16-300 (19.3*7.6*3.8(长宽高）)
footprint SOP16_N (10.3*6.2*1.8mm（长宽高）)
footprint SOP16_L (10.3*6.2*1.8mm（长宽高）)
footprint SOP16_M (10.3*6.2*1.8mm（长宽高）)
part A pins: 1 IN1 (in), 8 GND, 9 VCC, 16 OUT1 (oc)
part B pins: 2 IN2 (in), 15 OUT2 (oc)
part C pins: 3 IN3 (in), 14 OUT3 (oc)
part D pins: 4 IN4 (in), 13 OUT4 (oc)
part E pins: 5 IN5 (in), 12 OUT5 (oc)
part F pins: 6 IN6 (in), 11 OUT6 (oc)
part G pins: 7 IN7 (in), 10 OUT7 (oc)

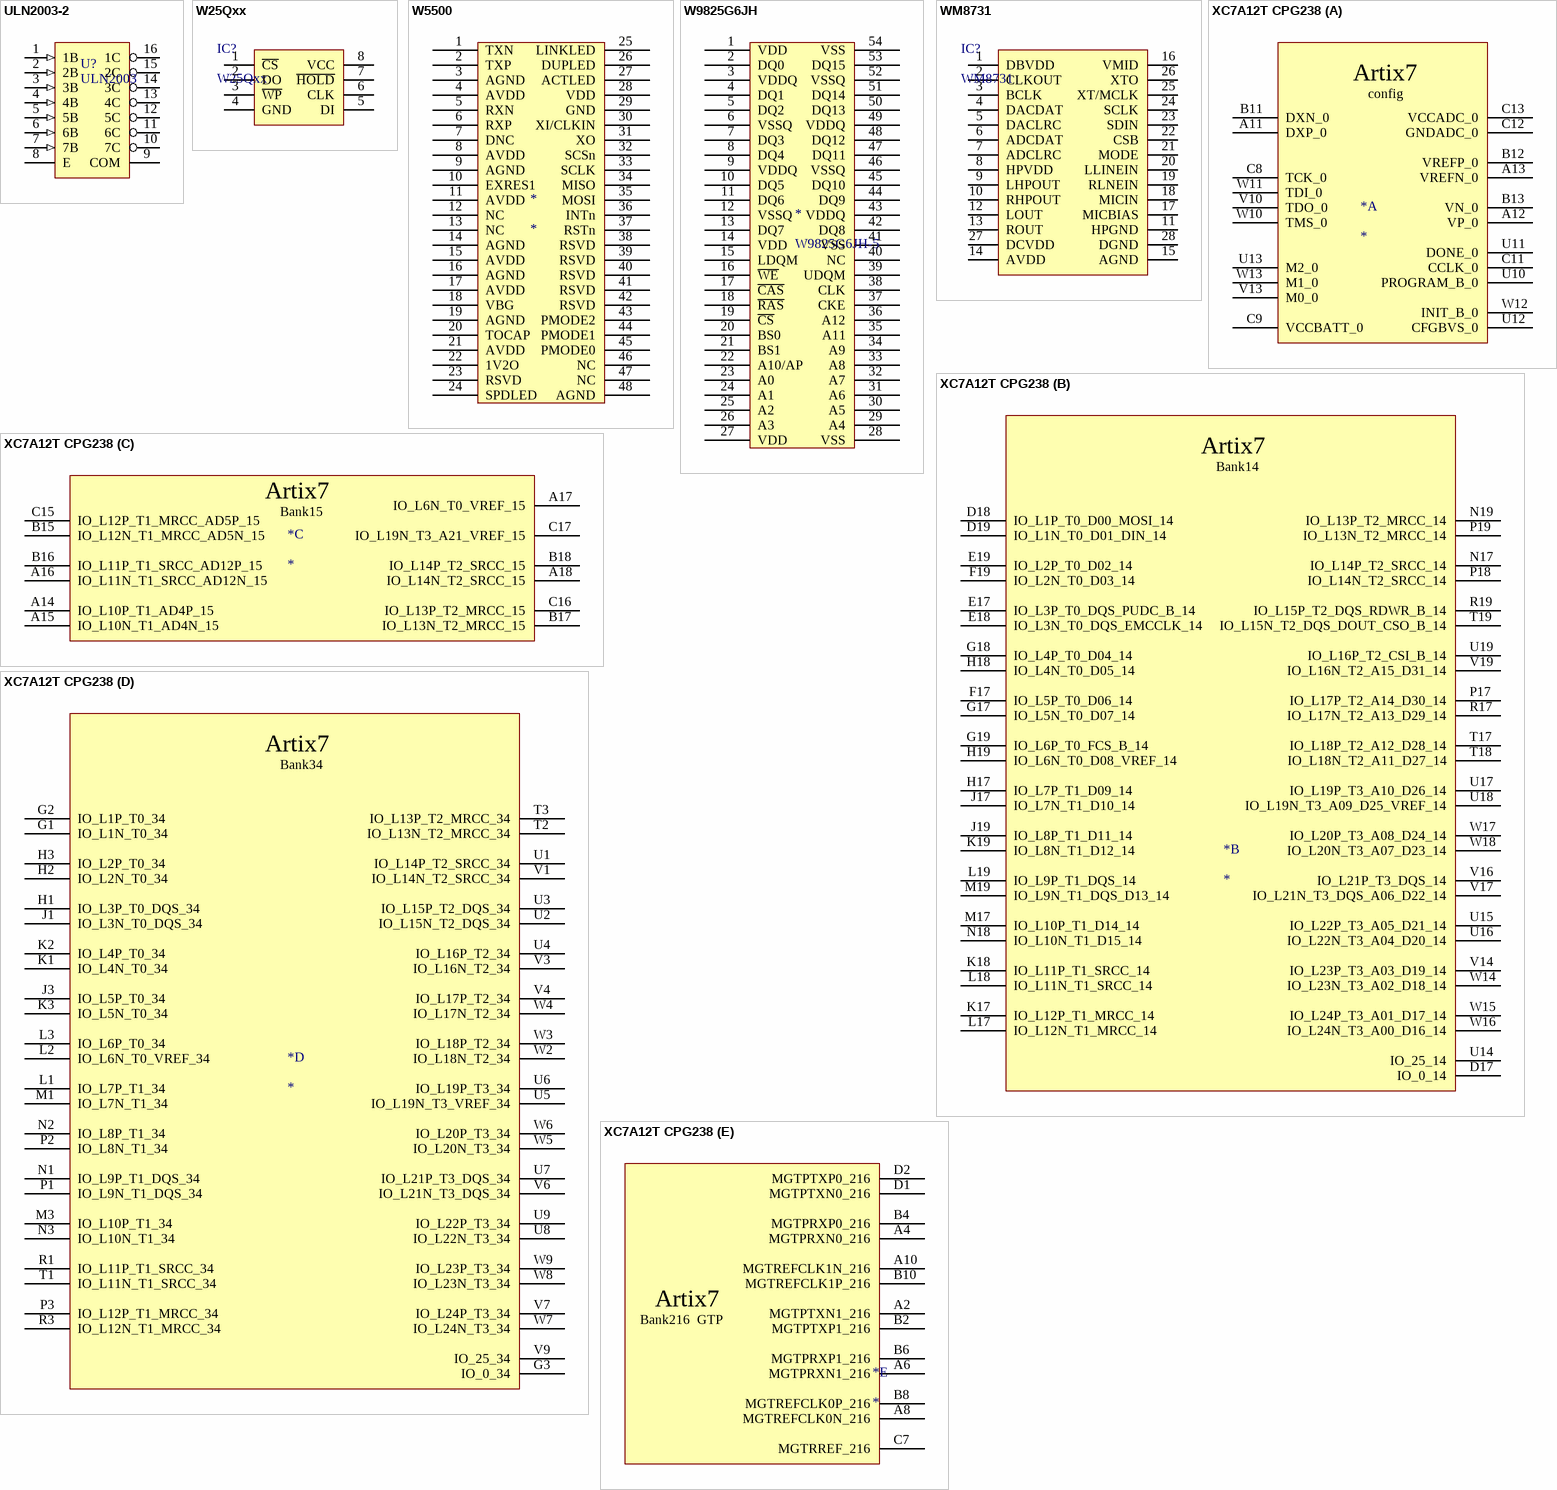
[diagram p6: symbols ULN2003-2 to XC7A12T CPG238]

## ULN2003-2
designator U?, comment ULN2003
达林顿驱动芯片; 版权归属: 黎明电子style; BOM名称: 达林顿驱动芯片; 学习资源: https://lmdzstyle.taobao.com/
footprint DIP16-300 (19.3*7.6*3.8(长宽高）)
footprint SOP16_N (10.3*6.2*1.8mm（长宽高）)
footprint SOP16_L (10.3*6.2*1.8mm（长宽高）)
footprint SOP16_M (10.3*6.2*1.8mm（长宽高）)
pins: 1 1B (in), 2 2B (in), 3 3B (in), 4 4B (in), 5 5B (in), 6 6B (in), 7 7B (in), 8 E, 9 COM, 10 7C (oc), 11 6C (oc), 12 5C (oc), 13 4C (oc), 14 3C (oc), 15 2C (oc), 16 1C (oc)

## W25Qxx
designator IC?
外置Flash; 版权归属: 黎明电子style; BOM名称: 外置Flash; 学习资源: https://lmdzstyle.taobao.com/
footprint SOP8W_N (5.3*8.3*1.8mm（长宽高）)
footprint SOP8W_L (5.3*8.3*1.8mm（长宽高）)
footprint SOP8W_M (5.3*8.3*1.8mm（长宽高）)
pins: 1 ~{CS}, 2 DO, 3 ~{WP}, 4 GND, 5 DI, 6 CLK, 7 ~{HOLD}, 8 VCC

## W5500
designator *
SPI 802.1 以太网芯片
footprint LQFP48 7X7_M (48脚，体宽7x7mm，脚距0.5mm)
pins: 1 TXN, 2 TXP, 3 AGND, 4 AVDD, 5 RXN, 6 RXP, 7 DNC, 8 AVDD, 9 AGND, 10 EXRES1, 11 AVDD, 12 NC, 13 NC, 14 AGND, 15 AVDD, 16 AGND, 17 AVDD, 18 VBG, 19 AGND, 20 TOCAP, 21 AVDD, 22 1V2O, 23 RSVD, 24 SPDLED, 25 LINKLED, 26 DUPLED, 27 ACTLED, 28 VDD, 29 GND, 30 XI/CLKIN, 31 XO, 32 SCSn, 33 SCLK, 34 MISO, 35 MOSI, 36 INTn, 37 RSTn, 38 RSVD, 39 RSVD, 40 RSVD, 41 RSVD, 42 RSVD, 43 PMODE2, 44 PMODE1, 45 PMODE0, 46 NC, 47 NC, 48 AGND

## W9825G6JH
designator *, comment W9825G6JH-5
footprint TSOP-54
pins: 1 VDD, 2 DQ0, 3 VDDQ, 4 DQ1, 5 DQ2, 6 VSSQ, 7 DQ3, 8 DQ4, 9 VDDQ, 10 DQ5, 11 DQ6, 12 VSSQ, 13 DQ7, 14 VDD, 15 LDQM, 16 ~{WE}, 17 ~{CAS}, 18 ~{RAS}, 19 ~{CS}, 20 BS0, 21 BS1, 22 A10/AP, 23 A0, 24 A1, 25 A2, 26 A3, 27 VDD, 28 VSS, 29 A4, 30 A5, 31 A6, 32 A7, 33 A8, 34 A9, 35 A11, 36 A12, 37 CKE, 38 CLK, 39 UDQM, 40 NC, 41 VSS, 42 DQ8, 43 VDDQ, 44 DQ9, 45 DQ10, 46 VSSQ, 47 DQ11, 48 DQ12, 49 VDDQ, 50 DQ13, 51 DQ14, 52 VSSQ, 53 DQ15, 54 VSS

## WM8731
designator IC?
音频PCM编解码芯片; 版权归属: 黎明电子style; BOM名称: 音频PCM编解码芯片; 学习资源: https://lmdzstyle.taobao.com/
footprint SSOP28_L (10.2*7.8*1.9mm(长宽高）)
footprint SSOP28_N (10.2*7.8*1.9mm(长宽高）)
footprint SSOP28_M (10.2*7.8*1.9mm(长宽高）)
pins: 1 DBVDD, 2 CLKOUT "DBVDD", 3 BCLK "DBVDD", 4 DACDAT "DBVDD", 5 DACLRC "DBVDD", 6 ADCDAT "DBVDD", 7 ADCLRC "DBVDD", 8 HPVDD "DBVDD", 9 LHPOUT "DBVDD", 10 RHPOUT "DBVDD", 11 HPGND "DBVDD", 12 LOUT "DBVDD", 13 ROUT "DBVDD", 14 AVDD "DBVDD", 15 AGND "DBVDD", 16 VMID "DBVDD", 17 MICBIAS "DBVDD", 18 MICIN "DBVDD", 19 RLNEIN "DBVDD", 20 LLINEIN "DBVDD", 21 MODE "DBVDD", 22 CSB "DBVDD", 23 SDIN "DBVDD", 24 SCLK "DBVDD", 25 XT/MCLK "DBVDD", 26 XTO "DBVDD", 27 DCVDD "DBVDD", 28 DGND "DBVDD"

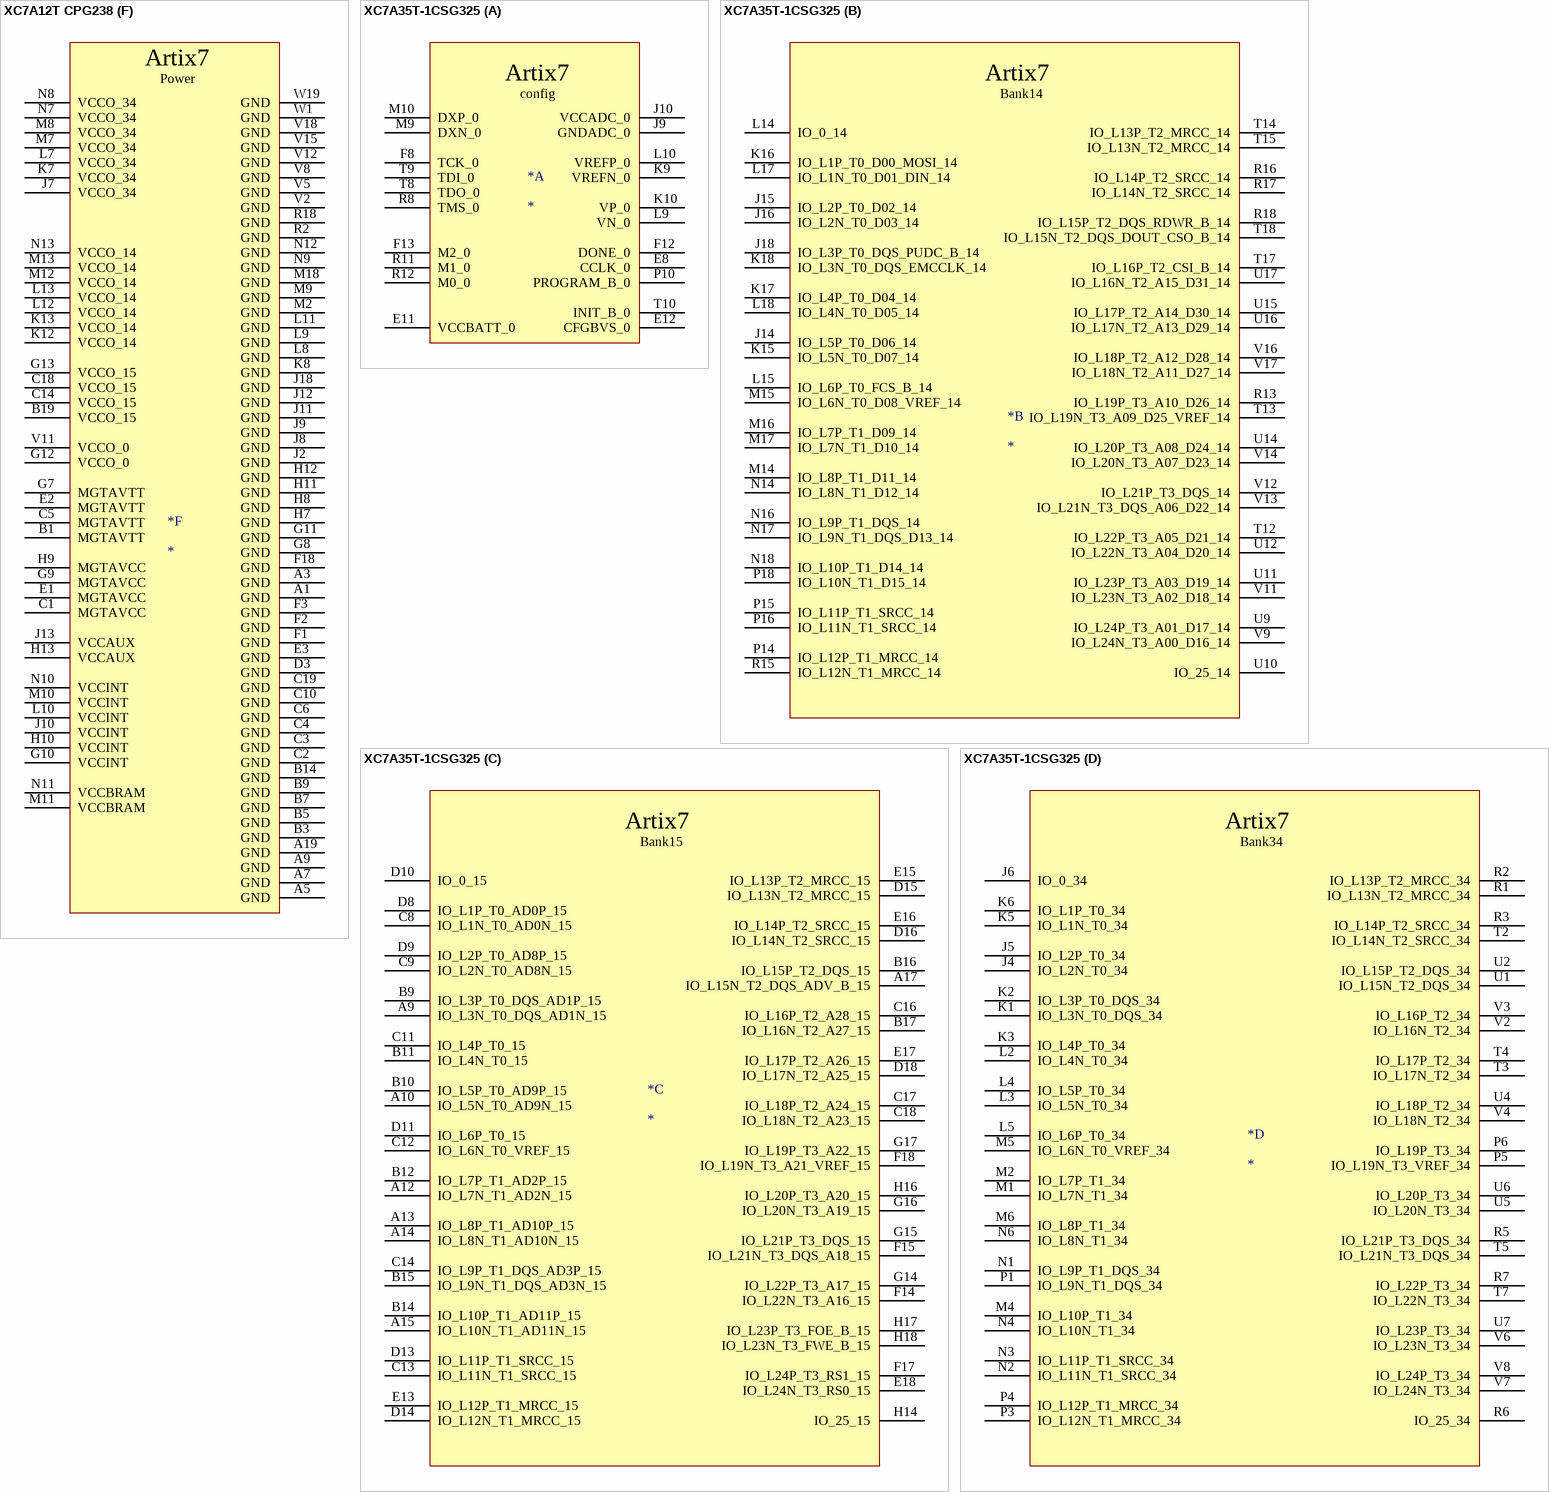
[diagram p7: symbols XC7A12T CPG238 to XC7A35T-1CSG325]

## XC7A12T CPG238
designator *
footprint BGA238C50P19X19_1000X1000X128 (BGA, 238-Leads, Body 10.00x10.00mmx1.28mm, Pitch 0.50mm)
part A pins: A11 DXP_0, A12 VP_0, A13 VREFN_0, B11 DXN_0, B12 VREFP_0, B13 VN_0, C8 TCK_0, C9 VCCBATT_0, C11 CCLK_0, C12 GNDADC_0, C13 VCCADC_0, U10 PROGRAM_B_0, U11 DONE_0, U12 CFGBVS_0, U13 M2_0, V10 TDO_0, V13 M0_0, W10 TMS_0, W11 TDI_0, W12 INIT_B_0, W13 M1_0
part B pins: D17 IO_0_14, D18 IO_L1P_T0_D00_MOSI_14, D19 IO_L1N_T0_D01_DIN_14, E17 IO_L3P_T0_DQS_PUDC_B_14, E18 IO_L3N_T0_DQS_EMCCLK_14, E19 IO_L2P_T0_D02_14, F17 IO_L5P_T0_D06_14, F19 IO_L2N_T0_D03_14, G17 IO_L5N_T0_D07_14, G18 IO_L4P_T0_D04_14, G19 IO_L6P_T0_FCS_B_14, H17 IO_L7P_T1_D09_14, H18 IO_L4N_T0_D05_14, H19 IO_L6N_T0_D08_VREF_14, J17 IO_L7N_T1_D10_14, J19 IO_L8P_T1_D11_14, K17 IO_L12P_T1_MRCC_14, K18 IO_L11P_T1_SRCC_14, K19 IO_L8N_T1_D12_14, L17 IO_L12N_T1_MRCC_14, L18 IO_L11N_T1_SRCC_14, L19 IO_L9P_T1_DQS_14, M17 IO_L10P_T1_D14_14, M19 IO_L9N_T1_DQS_D13_14, N17 IO_L14P_T2_SRCC_14, N18 IO_L10N_T1_D15_14, N19 IO_L13P_T2_MRCC_14, P17 IO_L17P_T2_A14_D30_14, P18 IO_L14N_T2_SRCC_14, P19 IO_L13N_T2_MRCC_14, R17 IO_L17N_T2_A13_D29_14, R19 IO_L15P_T2_DQS_RDWR_B_14, T17 IO_L18P_T2_A12_D28_14, T18 IO_L18N_T2_A11_D27_14, T19 IO_L15N_T2_DQS_DOUT_CSO_B_14, U14 IO_25_14, U15 IO_L22P_T3_A05_D21_14, U16 IO_L22N_T3_A04_D20_14, U17 IO_L19P_T3_A10_D26_14, U18 IO_L19N_T3_A09_D25_VREF_14, U19 IO_L16P_T2_CSI_B_14, V14 IO_L23P_T3_A03_D19_14, V16 IO_L21P_T3_DQS_14, V17 IO_L21N_T3_DQS_A06_D22_14, V19 IO_L16N_T2_A15_D31_14, W14 IO_L23N_T3_A02_D18_14, W15 IO_L24P_T3_A01_D17_14, W16 IO_L24N_T3_A00_D16_14, W17 IO_L20P_T3_A08_D24_14, W18 IO_L20N_T3_A07_D23_14
part C pins: A14 IO_L10P_T1_AD4P_15, A15 IO_L10N_T1_AD4N_15, A16 IO_L11N_T1_SRCC_AD12N_15, A17 IO_L6N_T0_VREF_15, A18 IO_L14N_T2_SRCC_15, B15 IO_L12N_T1_MRCC_AD5N_15, B16 IO_L11P_T1_SRCC_AD12P_15, B17 IO_L13N_T2_MRCC_15, B18 IO_L14P_T2_SRCC_15, C15 IO_L12P_T1_MRCC_AD5P_15, C16 IO_L13P_T2_MRCC_15, C17 IO_L19N_T3_A21_VREF_15
part D pins: G1 IO_L1N_T0_34, G2 IO_L1P_T0_34, G3 IO_0_34, H1 IO_L3P_T0_DQS_34, H2 IO_L2N_T0_34, H3 IO_L2P_T0_34, J1 IO_L3N_T0_DQS_34, J3 IO_L5P_T0_34, K1 IO_L4N_T0_34, K2 IO_L4P_T0_34, K3 IO_L5N_T0_34, L1 IO_L7P_T1_34, L2 IO_L6N_T0_VREF_34, L3 IO_L6P_T0_34, M1 IO_L7N_T1_34, M3 IO_L10P_T1_34, N1 IO_L9P_T1_DQS_34, N2 IO_L8P_T1_34, N3 IO_L10N_T1_34, P1 IO_L9N_T1_DQS_34, P2 IO_L8N_T1_34, P3 IO_L12P_T1_MRCC_34, R1 IO_L11P_T1_SRCC_34, R3 IO_L12N_T1_MRCC_34, T1 IO_L11N_T1_SRCC_34, T2 IO_L13N_T2_MRCC_34, T3 IO_L13P_T2_MRCC_34, U1 IO_L14P_T2_SRCC_34, U2 IO_L15N_T2_DQS_34, U3 IO_L15P_T2_DQS_34, U4 IO_L16P_T2_34, U5 IO_L19N_T3_VREF_34, U6 IO_L19P_T3_34, U7 IO_L21P_T3_DQS_34, U8 IO_L22N_T3_34, U9 IO_L22P_T3_34, V1 IO_L14N_T2_SRCC_34, V3 IO_L16N_T2_34, V4 IO_L17P_T2_34, V6 IO_L21N_T3_DQS_34, V7 IO_L24P_T3_34, V9 IO_25_34, W2 IO_L18N_T2_34, W3 IO_L18P_T2_34, W4 IO_L17N_T2_34, W5 IO_L20N_T3_34, W6 IO_L20P_T3_34, W7 IO_L24N_T3_34, W8 IO_L23N_T3_34, W9 IO_L23P_T3_34
part E pins: A2 MGTPTXN1_216, A4 MGTPRXN0_216, A6 MGTPRXN1_216, A8 MGTREFCLK0N_216, A10 MGTREFCLK1N_216, B2 MGTPTXP1_216, B4 MGTPRXP0_216, B6 MGTPRXP1_216, B8 MGTREFCLK0P_216, B10 MGTREFCLK1P_216, C7 MGTRREF_216, D1 MGTPTXN0_216, D2 MGTPTXP0_216
part F pins: A1 GND, A3 GND, A5 GND, A7 GND, A9 GND, A19 GND, B1 MGTAVTT, B3 GND, B5 GND, B7 GND, B9 GND, B14 GND, B19 VCCO_15, C1 MGTAVCC, C2 GND, C3 GND, C4 GND, C5 MGTAVTT, C6 GND, C10 GND, C14 VCCO_15, C18 VCCO_15, C19 GND, D3 GND, E1 MGTAVCC, E2 MGTAVTT, E3 GND, F1 GND, F2 GND, F3 GND, F18 GND, G7 MGTAVTT, G8 GND, G9 MGTAVCC, G10 VCCINT, G11 GND, G12 VCCO_0, G13 VCCO_15, H7 GND, H8 GND, H9 MGTAVCC, H10 VCCINT, H11 GND, H12 GND, H13 VCCAUX, J2 GND, J7 VCCO_34, J8 GND, J9 GND, J10 VCCINT, J11 GND, J12 GND, J13 VCCAUX, J18 GND, K7 VCCO_34, K8 GND, K12 VCCO_14, K13 VCCO_14, L7 VCCO_34, L8 GND, L9 GND, L10 VCCINT, L11 GND, L12 VCCO_14, L13 VCCO_14, M2 GND, M7 VCCO_34, M8 VCCO_34, M9 GND, M10 VCCINT, M11 VCCBRAM, M12 VCCO_14, M13 VCCO_14, M18 GND, N7 VCCO_34, N8 VCCO_34, N9 GND, N10 VCCINT, N11 VCCBRAM, N12 GND, N13 VCCO_14, R2 GND, R18 GND, V2 GND, V5 GND, V8 GND, V11 VCCO_0, V12 GND, V15 GND, V18 GND, W1 GND, W19 GND
part A text: Artix7; config
part B text: Artix7; Bank14
part C text: Artix7; Bank15
part D text: Artix7; Bank34
part E text: Artix7; Bank216  GTP
part F text: Artix7; Power

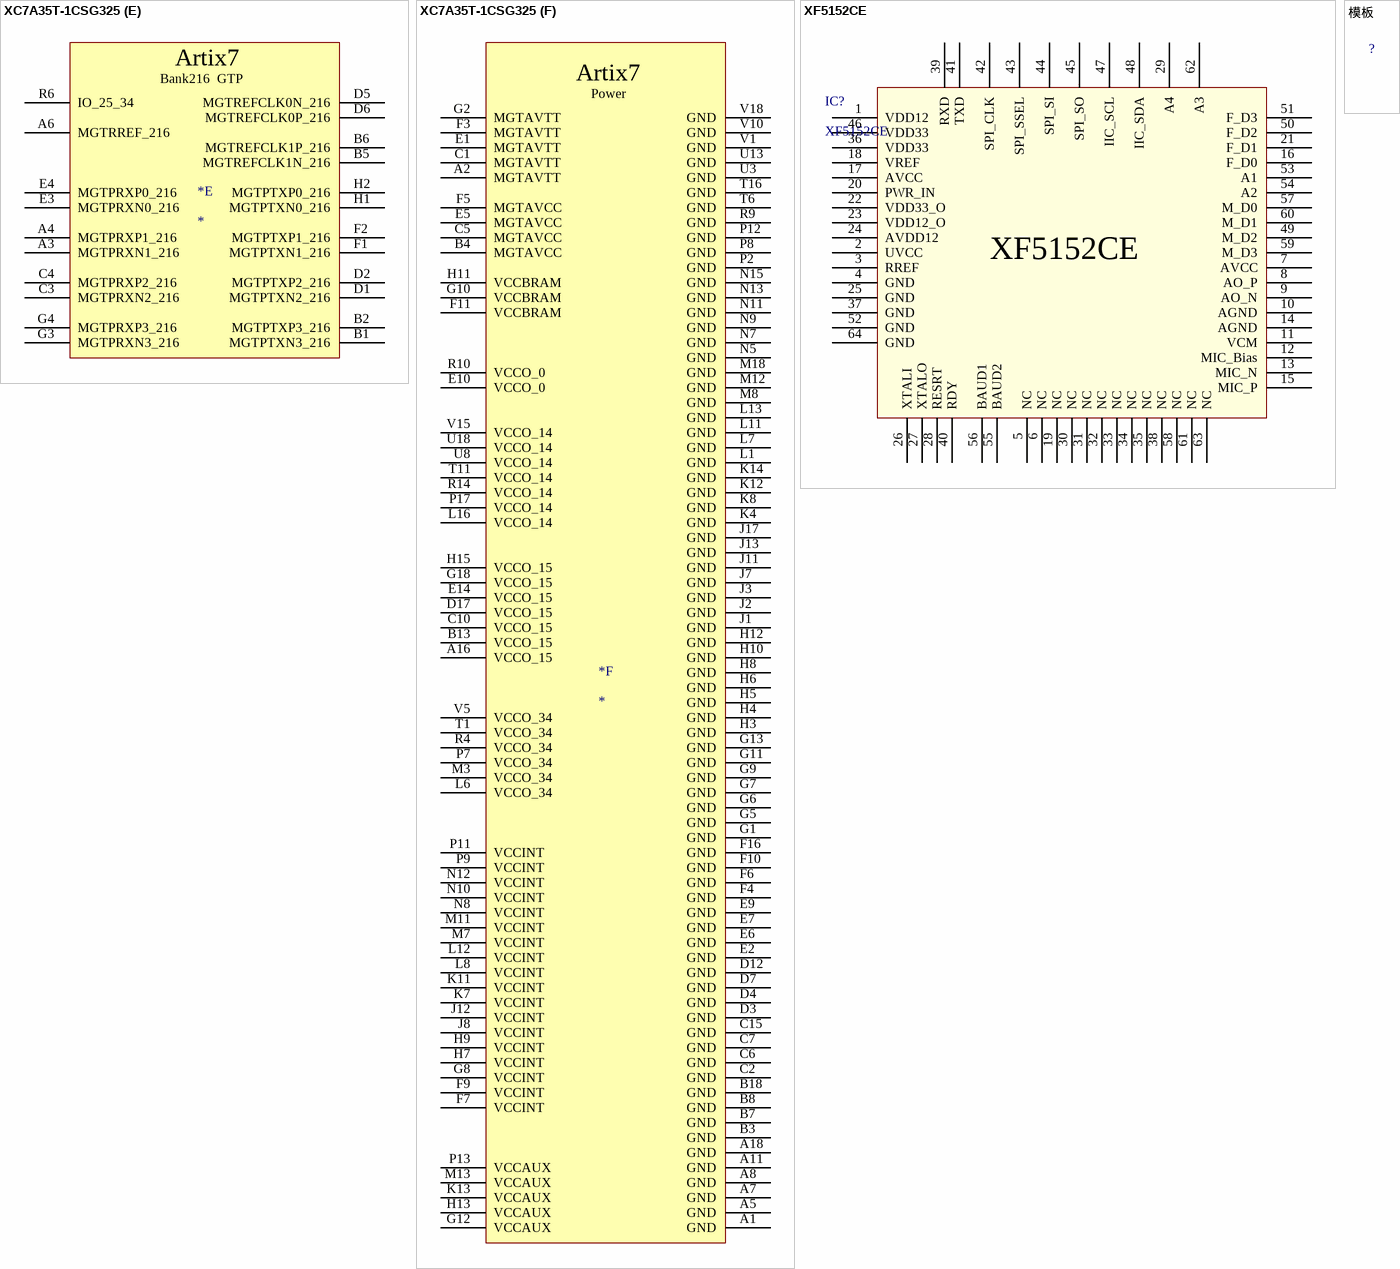
[diagram p8: symbols XC7A35T-1CSG325 to 模板]